# Altium integrated library Microchip dsPIC30F.IntLib: 283 symbols (part 3 of 14)
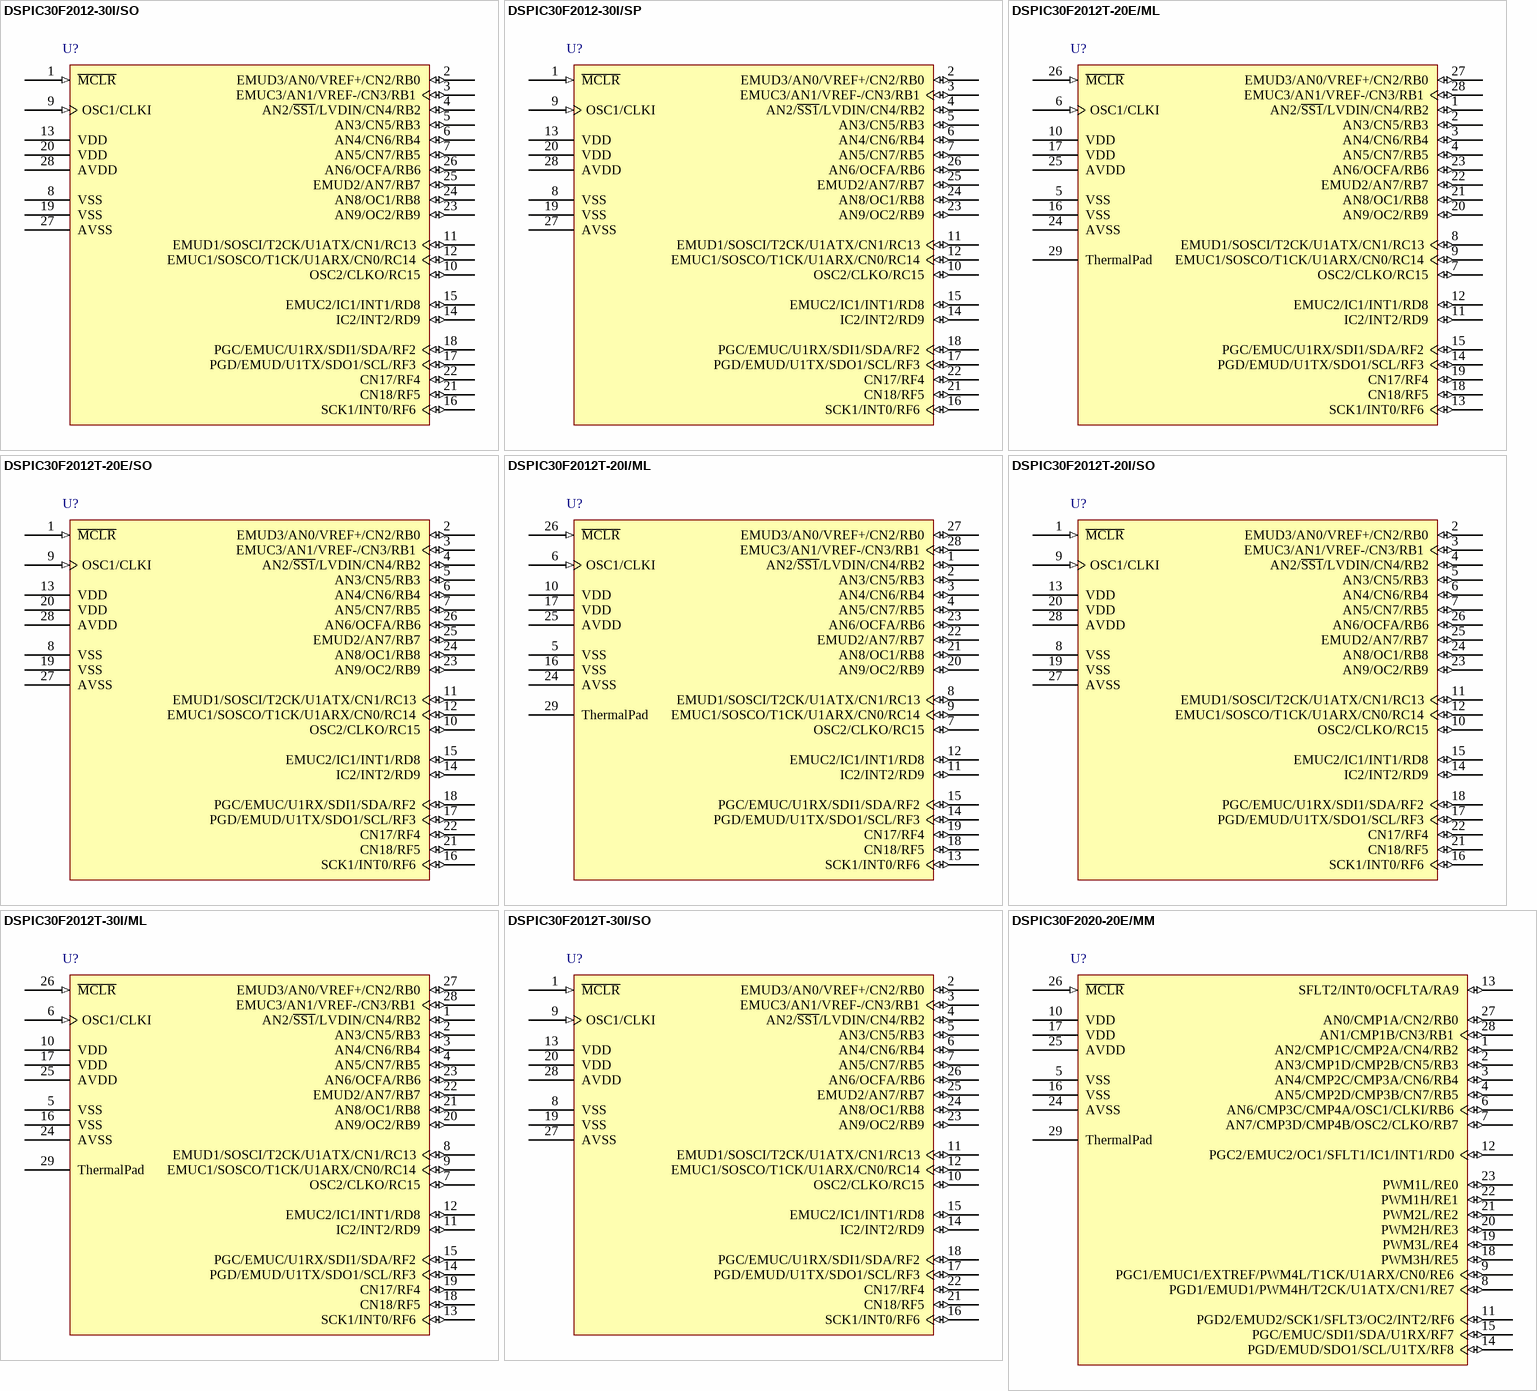
[diagram p49: symbols DSPIC30F2012-30I/SO to DSPIC30F2020-20E/MM]

## DSPIC30F2012T-20I/ML
designator U?
High-Performance 16-bit Digital Signal Controller, 12 KB Flash, 1 KB SRAM, 28-Pin QFN, Industrial Temperature, Tape and Reel; Manufacturer: Microchip; PartNumber: DSPIC30F2012T-20I/ML; DatasheetVersion: revF, May-2008; PackageVersion: revBB, Aug-2009; PackageReference: QFN-ML28; PackageDescription: 28-Lead Plastic Quad Flat, No Lead Package (ML) - 6x6 mm Body [QFN] with 0.55 mm Contact Length; Supplier 1: Digi-Key; Supplier Part Number 1: DSPIC30F2012T-20I/ML-ND; Supplier 2: Mouser; Supplier Part Number 2: 579-DS302012T20IML; Mounting Technology: Surface Mount; Code_JEDEC: MO-220; ComponentLink1Description: Manufacturer URL; ComponentLink1URL: http://www.microchip.com/; ComponentLink2Description: Datasheet; ComponentLink2URL: http://ww1.microchip.com/downloads/en/DeviceDoc/70139F.pdf; ComponentLink3Description: Package Specification; ComponentLink3URL: http://www.microchip.com/stellent/groups/techpub_sg/documents/packagingspec/en012702.pdf
footprint QFN-ML28_N (QFN, 28-Leads, Body 6x6mm, Pitch 0.65mm, Thermal Pad 4.2x4.2mm, IPC Medium Density)
footprint QFN-ML28_L (QFN, 28-Leads, Body 6x6mm, Pitch 0.65mm, Thermal Pad 4.2x4.2mm, IPC High Density)
footprint QFN-ML28_M (QFN, 28-Leads, Body 6x6mm, Pitch 0.65mm, Thermal Pad 4.2x4.2mm, IPC Low Density)
pins: 1 AN2/~{SS1}/LVDIN/CN4/RB2 (io), 2 AN3/CN5/RB3 (io), 3 AN4/CN6/RB4 (io), 4 AN5/CN7/RB5 (io), 5 VSS (power), 6 OSC1/CLKI (in), 7 OSC2/CLKO/RC15 (io), 8 EMUD1/SOSCI/T2CK/U1ATX/CN1/RC13 (io), 9 EMUC1/SOSCO/T1CK/U1ARX/CN0/RC14 (io), 10 VDD (power), 11 IC2/INT2/RD9 (io), 12 EMUC2/IC1/INT1/RD8 (io), 13 SCK1/INT0/RF6 (io), 14 PGD/EMUD/U1TX/SDO1/SCL/RF3 (io), 15 PGC/EMUC/U1RX/SDI1/SDA/RF2 (io), 16 VSS (power), 17 VDD (power), 18 CN18/RF5 (io), 19 CN17/RF4 (io), 20 AN9/OC2/RB9 (io), 21 AN8/OC1/RB8 (io), 22 EMUD2/AN7/RB7 (io), 23 AN6/OCFA/RB6 (io), 24 AVSS (power), 25 AVDD (power), 26 ~{MCLR} (in), 27 EMUD3/AN0/VREF+/CN2/RB0 (io), 28 EMUC3/AN1/VREF-/CN3/RB1 (io), 29 ThermalPad

## DSPIC30F2012T-20I/SO
designator U?
High-Performance 16-bit Digital Signal Controller, 12 KB Flash, 1 KB SRAM, 28-Pin SOIC, Industrial Temperature, Tape and Reel; Manufacturer: Microchip; PartNumber: DSPIC30F2012T-20I/SO; DatasheetVersion: revF, May-2008; PackageVersion: revBB, Aug-2009; PackageReference: SOIC-SO28; PackageDescription: 28-Lead Plastic Small Outline (SO) - Wide 7.50mm Body [SOIC]; Supplier 1: Digi-Key; Supplier Part Number 1: DSPIC30F2012T-20I/SO-ND; Supplier 2: Mouser; Supplier Part Number 2: N/A; Mounting Technology: Surface Mount; Code_JEDEC: MS-013; ComponentLink1Description: Manufacturer URL; ComponentLink1URL: http://www.microchip.com/; ComponentLink2Description: Datasheet; ComponentLink2URL: http://ww1.microchip.com/downloads/en/DeviceDoc/70139F.pdf; ComponentLink3Description: Package Specification; ComponentLink3URL: http://www.microchip.com/stellent/groups/techpub_sg/documents/packagingspec/en012702.pdf
footprint SOIC-SO28_N (SOIC, 28-Leads, Body 17.9x7.5mm, Pitch 1.27mm, IPC Medium Density)
footprint SOIC-SO28_L (SOIC, 28-Leads, Body 17.9x7.5mm, Pitch 1.27mm, IPC High Density)
footprint SOIC-SO28_M (SOIC, 28-Leads, Body 17.9x7.5mm, Pitch 1.27mm, IPC Low Density)
pins: 1 ~{MCLR} (in), 2 EMUD3/AN0/VREF+/CN2/RB0 (io), 3 EMUC3/AN1/VREF-/CN3/RB1 (io), 4 AN2/~{SS1}/LVDIN/CN4/RB2 (io), 5 AN3/CN5/RB3 (io), 6 AN4/CN6/RB4 (io), 7 AN5/CN7/RB5 (io), 8 VSS (power), 9 OSC1/CLKI (in), 10 OSC2/CLKO/RC15 (io), 11 EMUD1/SOSCI/T2CK/U1ATX/CN1/RC13 (io), 12 EMUC1/SOSCO/T1CK/U1ARX/CN0/RC14 (io), 13 VDD (power), 14 IC2/INT2/RD9 (io), 15 EMUC2/IC1/INT1/RD8 (io), 16 SCK1/INT0/RF6 (io), 17 PGD/EMUD/U1TX/SDO1/SCL/RF3 (io), 18 PGC/EMUC/U1RX/SDI1/SDA/RF2 (io), 19 VSS (power), 20 VDD (power), 21 CN18/RF5 (io), 22 CN17/RF4 (io), 23 AN9/OC2/RB9 (io), 24 AN8/OC1/RB8 (io), 25 EMUD2/AN7/RB7 (io), 26 AN6/OCFA/RB6 (io), 27 AVSS (power), 28 AVDD (power)

## DSPIC30F2012T-30I/ML
designator U?
High-Performance 16-bit Digital Signal Controller, 12 KB Flash, 1 KB SRAM, 28-Pin QFN, Industrial Temperature, Tape and Reel; Manufacturer: Microchip; PartNumber: DSPIC30F2012T-30I/ML; DatasheetVersion: revF, May-2008; PackageVersion: revBB, Aug-2009; PackageReference: QFN-ML28; PackageDescription: 28-Lead Plastic Quad Flat, No Lead Package (ML) - 6x6 mm Body [QFN] with 0.55 mm Contact Length; Supplier 1: Digi-Key; Supplier Part Number 1: DSPIC30F2012T-30I/ML-ND; Supplier 2: Newark; Supplier Part Number 2: 71J3680; Supplier 3: Mouser; Supplier Part Number 3: 579-DS302012T30IML; Mounting Technology: Surface Mount; Code_JEDEC: MO-220; ComponentLink1Description: Manufacturer URL; ComponentLink1URL: http://www.microchip.com/; ComponentLink2Description: Datasheet; ComponentLink2URL: http://ww1.microchip.com/downloads/en/DeviceDoc/70139F.pdf; ComponentLink3Description: Package Specification; ComponentLink3URL: http://www.microchip.com/stellent/groups/techpub_sg/documents/packagingspec/en012702.pdf
footprint QFN-ML28_N (QFN, 28-Leads, Body 6x6mm, Pitch 0.65mm, Thermal Pad 4.2x4.2mm, IPC Medium Density)
footprint QFN-ML28_L (QFN, 28-Leads, Body 6x6mm, Pitch 0.65mm, Thermal Pad 4.2x4.2mm, IPC High Density)
footprint QFN-ML28_M (QFN, 28-Leads, Body 6x6mm, Pitch 0.65mm, Thermal Pad 4.2x4.2mm, IPC Low Density)
pins: 1 AN2/~{SS1}/LVDIN/CN4/RB2 (io), 2 AN3/CN5/RB3 (io), 3 AN4/CN6/RB4 (io), 4 AN5/CN7/RB5 (io), 5 VSS (power), 6 OSC1/CLKI (in), 7 OSC2/CLKO/RC15 (io), 8 EMUD1/SOSCI/T2CK/U1ATX/CN1/RC13 (io), 9 EMUC1/SOSCO/T1CK/U1ARX/CN0/RC14 (io), 10 VDD (power), 11 IC2/INT2/RD9 (io), 12 EMUC2/IC1/INT1/RD8 (io), 13 SCK1/INT0/RF6 (io), 14 PGD/EMUD/U1TX/SDO1/SCL/RF3 (io), 15 PGC/EMUC/U1RX/SDI1/SDA/RF2 (io), 16 VSS (power), 17 VDD (power), 18 CN18/RF5 (io), 19 CN17/RF4 (io), 20 AN9/OC2/RB9 (io), 21 AN8/OC1/RB8 (io), 22 EMUD2/AN7/RB7 (io), 23 AN6/OCFA/RB6 (io), 24 AVSS (power), 25 AVDD (power), 26 ~{MCLR} (in), 27 EMUD3/AN0/VREF+/CN2/RB0 (io), 28 EMUC3/AN1/VREF-/CN3/RB1 (io), 29 ThermalPad

## DSPIC30F2012T-30I/SO
designator U?
High-Performance 16-bit Digital Signal Controller, 12 KB Flash, 1 KB SRAM, 28-Pin SOIC, Industrial Temperature, Tape and Reel; Manufacturer: Microchip; PartNumber: DSPIC30F2012T-30I/SO; DatasheetVersion: revF, May-2008; PackageVersion: revBB, Aug-2009; PackageReference: SOIC-SO28; PackageDescription: 28-Lead Plastic Small Outline (SO) - Wide 7.50mm Body [SOIC]; Supplier 1: Digi-Key; Supplier Part Number 1: DSPIC30F2012T-30I/SO-ND; Supplier 2: Mouser; Supplier Part Number 2: 579-DS302012T30ISO; Mounting Technology: Surface Mount; Code_JEDEC: MS-013; ComponentLink1Description: Manufacturer URL; ComponentLink1URL: http://www.microchip.com/; ComponentLink2Description: Datasheet; ComponentLink2URL: http://ww1.microchip.com/downloads/en/DeviceDoc/70139F.pdf; ComponentLink3Description: Package Specification; ComponentLink3URL: http://www.microchip.com/stellent/groups/techpub_sg/documents/packagingspec/en012702.pdf
footprint SOIC-SO28_N (SOIC, 28-Leads, Body 17.9x7.5mm, Pitch 1.27mm, IPC Medium Density)
footprint SOIC-SO28_L (SOIC, 28-Leads, Body 17.9x7.5mm, Pitch 1.27mm, IPC High Density)
footprint SOIC-SO28_M (SOIC, 28-Leads, Body 17.9x7.5mm, Pitch 1.27mm, IPC Low Density)
pins: 1 ~{MCLR} (in), 2 EMUD3/AN0/VREF+/CN2/RB0 (io), 3 EMUC3/AN1/VREF-/CN3/RB1 (io), 4 AN2/~{SS1}/LVDIN/CN4/RB2 (io), 5 AN3/CN5/RB3 (io), 6 AN4/CN6/RB4 (io), 7 AN5/CN7/RB5 (io), 8 VSS (power), 9 OSC1/CLKI (in), 10 OSC2/CLKO/RC15 (io), 11 EMUD1/SOSCI/T2CK/U1ATX/CN1/RC13 (io), 12 EMUC1/SOSCO/T1CK/U1ARX/CN0/RC14 (io), 13 VDD (power), 14 IC2/INT2/RD9 (io), 15 EMUC2/IC1/INT1/RD8 (io), 16 SCK1/INT0/RF6 (io), 17 PGD/EMUD/U1TX/SDO1/SCL/RF3 (io), 18 PGC/EMUC/U1RX/SDI1/SDA/RF2 (io), 19 VSS (power), 20 VDD (power), 21 CN18/RF5 (io), 22 CN17/RF4 (io), 23 AN9/OC2/RB9 (io), 24 AN8/OC1/RB8 (io), 25 EMUD2/AN7/RB7 (io), 26 AN6/OCFA/RB6 (io), 27 AVSS (power), 28 AVDD (power)

## DSPIC30F2020-20E/MM
designator U?
High-Performance 16-bit Digital Signal Controller with Switch Mode Power Supply, 12 KB Flash, 512 Byte SRAM, 28-Pin QFN, Extended High Temperature; Manufacturer: Microchip; PartNumber: DSPIC30F2020-20E/MM; DatasheetVersion: revC, Nov-2006; PackageVersion: revBB, Aug-2009; PackageReference: QFNS-MM28; PackageDescription: 28-Lead Plastic Quad Flat, No Lead Package (MM) - 6x6x0.9 mm Body [QFN-S] with 0.40 mm Contact Length; Supplier 1: Digi-Key; Supplier Part Number 1: DSPIC30F2020-20E/MM-ND; Supplier 2: Mouser; Supplier Part Number 2: 579-DSPIC30202020EMM; Mounting Technology: Surface Mount; ComponentLink1Description: Manufacturer URL; ComponentLink1URL: http://www.microchip.com/; ComponentLink2Description: Datasheet; ComponentLink2URL: http://ww1.microchip.com/downloads/en/DeviceDoc/70178C.pdf; ComponentLink3Description: Package Specification; ComponentLink3URL: http://www.microchip.com/stellent/groups/techpub_sg/documents/packagingspec/en012702.pdf
footprint QFNS-MM28_N (QFN, 28-Leads, Body 6x6mm, Pitch 0.65mm, Thermal Pad 4.7x4.7mm, IPC Medium Density)
footprint QFNS-MM28_L (QFN, 28-Leads, Body 6x6mm, Pitch 0.65mm, Thermal Pad 4.7x4.7mm, IPC High Density)
footprint QFNS-MM28_M (QFN, 28-Leads, Body 6x6mm, Pitch 0.65mm, Thermal Pad 4.7x4.7mm, IPC Low Density)
pins: 1 AN2/CMP1C/CMP2A/CN4/RB2 (io), 2 AN3/CMP1D/CMP2B/CN5/RB3 (io), 3 AN4/CMP2C/CMP3A/CN6/RB4 (io), 4 AN5/CMP2D/CMP3B/CN7/RB5 (io), 5 VSS (power), 6 AN6/CMP3C/CMP4A/OSC1/CLKI/RB6 (io), 7 AN7/CMP3D/CMP4B/OSC2/CLKO/RB7 (io), 8 PGD1/EMUD1/PWM4H/T2CK/U1ATX/CN1/RE7 (io), 9 PGC1/EMUC1/EXTREF/PWM4L/T1CK/U1ARX/CN0/RE6 (io), 10 VDD (power), 11 PGD2/EMUD2/SCK1/SFLT3/OC2/INT2/RF6 (io), 12 PGC2/EMUC2/OC1/SFLT1/IC1/INT1/RD0 (io), 13 SFLT2/INT0/OCFLTA/RA9 (io), 14 PGD/EMUD/SDO1/SCL/U1TX/RF8 (io), 15 PGC/EMUC/SDI1/SDA/U1RX/RF7 (io), 16 VSS (power), 17 VDD (power), 18 PWM3H/RE5 (io), 19 PWM3L/RE4 (io), 20 PWM2H/RE3 (io), 21 PWM2L/RE2 (io), 22 PWM1H/RE1 (io), 23 PWM1L/RE0 (io), 24 AVSS (power), 25 AVDD (power), 26 ~{MCLR} (in), 27 AN0/CMP1A/CN2/RB0 (io), 28 AN1/CMP1B/CN3/RB1 (io), 29 ThermalPad

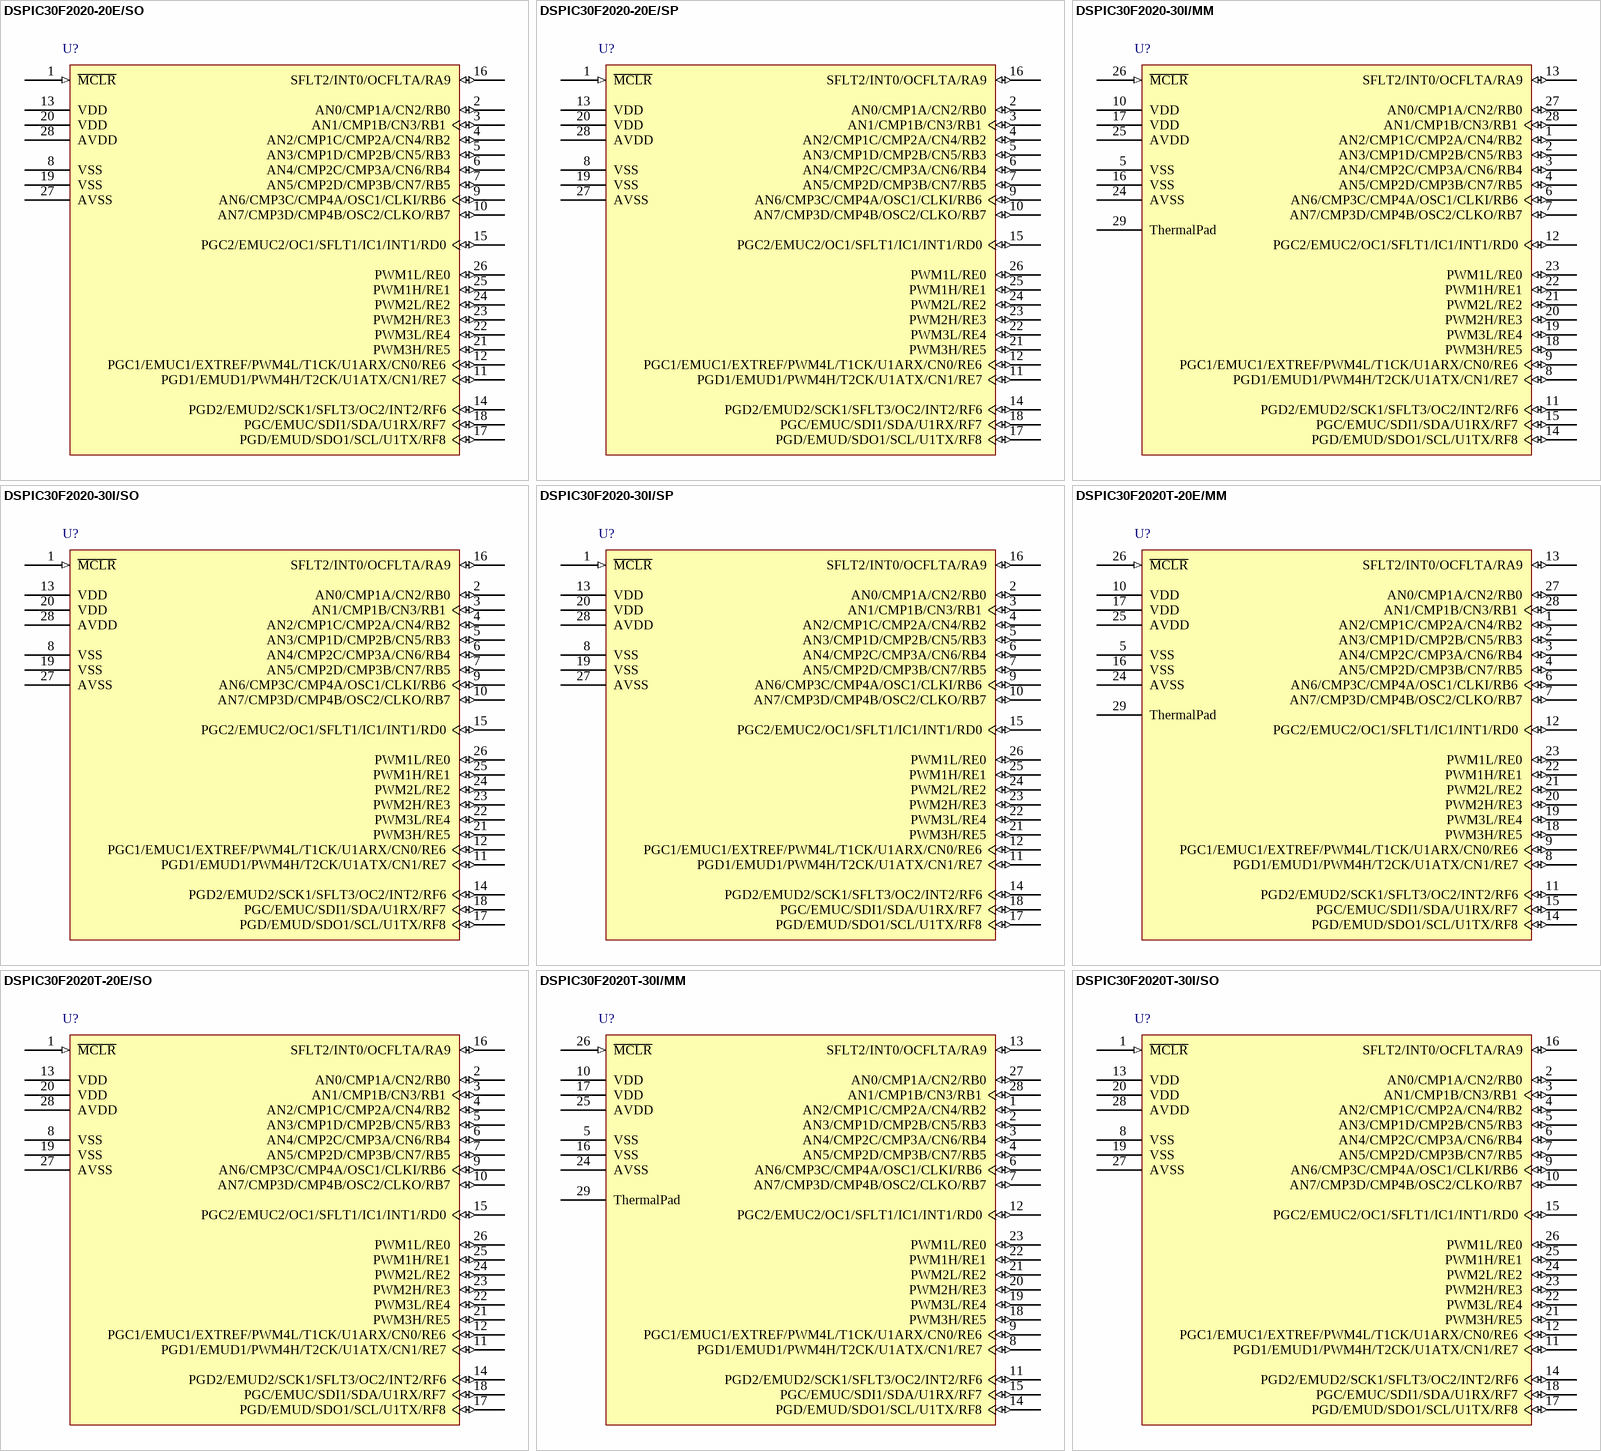
[diagram p6: symbols DSPIC30F2020-20E/SO to DSPIC30F2020T-30I/SO]

## DSPIC30F2020-20E/SO
designator U?
High-Performance 16-bit Digital Signal Controller with Switch Mode Power Supply, 12 KB Flash, 512 Byte SRAM, 28-Pin SOIC, Extended High Temperature; Manufacturer: Microchip; PartNumber: DSPIC30F2020-20E/SO; DatasheetVersion: revC, Nov-2006; PackageVersion: revBB, Aug-2009; PackageReference: SOIC-SO28; PackageDescription: 28-Lead Plastic Small Outline (SO) - Wide 7.50mm Body [SOIC]; Supplier 1: Digi-Key; Supplier Part Number 1: DSPIC30F2020-20E/SO-ND; Supplier 2: Newark; Supplier Part Number 2: 88K3879; Supplier 3: Mouser; Supplier Part Number 3: 579-DSPIC30202020ESO; Mounting Technology: Surface Mount; Code_JEDEC: MS-013; ComponentLink1Description: Manufacturer URL; ComponentLink1URL: http://www.microchip.com/; ComponentLink2Description: Datasheet; ComponentLink2URL: http://ww1.microchip.com/downloads/en/DeviceDoc/70178C.pdf; ComponentLink3Description: Package Specification; ComponentLink3URL: http://www.microchip.com/stellent/groups/techpub_sg/documents/packagingspec/en012702.pdf
footprint SOIC-SO28_N (SOIC, 28-Leads, Body 17.9x7.5mm, Pitch 1.27mm, IPC Medium Density)
footprint SOIC-SO28_L (SOIC, 28-Leads, Body 17.9x7.5mm, Pitch 1.27mm, IPC High Density)
footprint SOIC-SO28_M (SOIC, 28-Leads, Body 17.9x7.5mm, Pitch 1.27mm, IPC Low Density)
pins: 1 ~{MCLR} (in), 2 AN0/CMP1A/CN2/RB0 (io), 3 AN1/CMP1B/CN3/RB1 (io), 4 AN2/CMP1C/CMP2A/CN4/RB2 (io), 5 AN3/CMP1D/CMP2B/CN5/RB3 (io), 6 AN4/CMP2C/CMP3A/CN6/RB4 (io), 7 AN5/CMP2D/CMP3B/CN7/RB5 (io), 8 VSS (power), 9 AN6/CMP3C/CMP4A/OSC1/CLKI/RB6 (io), 10 AN7/CMP3D/CMP4B/OSC2/CLKO/RB7 (io), 11 PGD1/EMUD1/PWM4H/T2CK/U1ATX/CN1/RE7 (io), 12 PGC1/EMUC1/EXTREF/PWM4L/T1CK/U1ARX/CN0/RE6 (io), 13 VDD (power), 14 PGD2/EMUD2/SCK1/SFLT3/OC2/INT2/RF6 (io), 15 PGC2/EMUC2/OC1/SFLT1/IC1/INT1/RD0 (io), 16 SFLT2/INT0/OCFLTA/RA9 (io), 17 PGD/EMUD/SDO1/SCL/U1TX/RF8 (io), 18 PGC/EMUC/SDI1/SDA/U1RX/RF7 (io), 19 VSS (power), 20 VDD (power), 21 PWM3H/RE5 (io), 22 PWM3L/RE4 (io), 23 PWM2H/RE3 (io), 24 PWM2L/RE2 (io), 25 PWM1H/RE1 (io), 26 PWM1L/RE0 (io), 27 AVSS (power), 28 AVDD (power)

## DSPIC30F2020-20E/SP
designator U?
High-Performance 16-bit Digital Signal Controller with Switch Mode Power Supply, 12 KB Flash, 512 Byte SRAM, 28-Pin SPDIP, Extended High Temperature; Manufacturer: Microchip; PartNumber: DSPIC30F2020-20E/SP; DatasheetVersion: revC, Nov-2006; PackageVersion: revBB, Aug-2009; PackageReference: SPDIP300-SP28; PackageDescription: 28-Lead Skinny Plastic Dual In-Line (SP) - 300 mil Body [SPDIP]; Supplier 1: Digi-Key; Supplier Part Number 1: DSPIC30F2020-20E/SP-ND; Supplier 2: Newark; Supplier Part Number 2: 88K3880; Supplier 3: Mouser; Supplier Part Number 3: 579-DSPIC30202020ESP; Mounting Technology: Through Hole; ComponentLink1Description: Manufacturer URL; ComponentLink1URL: http://www.microchip.com/; ComponentLink2Description: Datasheet; ComponentLink2URL: http://ww1.microchip.com/downloads/en/DeviceDoc/70178C.pdf; ComponentLink3Description: Package Specification; ComponentLink3URL: http://www.microchip.com/stellent/groups/techpub_sg/documents/packagingspec/en012702.pdf
footprint SPDIP300-SP28 (DIP, 28-Leads, Row Spacing 7.62mm, Pitch 2.54mm, Body 34.9x6.8mm)
pins: 1 ~{MCLR} (in), 2 AN0/CMP1A/CN2/RB0 (io), 3 AN1/CMP1B/CN3/RB1 (io), 4 AN2/CMP1C/CMP2A/CN4/RB2 (io), 5 AN3/CMP1D/CMP2B/CN5/RB3 (io), 6 AN4/CMP2C/CMP3A/CN6/RB4 (io), 7 AN5/CMP2D/CMP3B/CN7/RB5 (io), 8 VSS (power), 9 AN6/CMP3C/CMP4A/OSC1/CLKI/RB6 (io), 10 AN7/CMP3D/CMP4B/OSC2/CLKO/RB7 (io), 11 PGD1/EMUD1/PWM4H/T2CK/U1ATX/CN1/RE7 (io), 12 PGC1/EMUC1/EXTREF/PWM4L/T1CK/U1ARX/CN0/RE6 (io), 13 VDD (power), 14 PGD2/EMUD2/SCK1/SFLT3/OC2/INT2/RF6 (io), 15 PGC2/EMUC2/OC1/SFLT1/IC1/INT1/RD0 (io), 16 SFLT2/INT0/OCFLTA/RA9 (io), 17 PGD/EMUD/SDO1/SCL/U1TX/RF8 (io), 18 PGC/EMUC/SDI1/SDA/U1RX/RF7 (io), 19 VSS (power), 20 VDD (power), 21 PWM3H/RE5 (io), 22 PWM3L/RE4 (io), 23 PWM2H/RE3 (io), 24 PWM2L/RE2 (io), 25 PWM1H/RE1 (io), 26 PWM1L/RE0 (io), 27 AVSS (power), 28 AVDD (power)

## DSPIC30F2020-30I/MM
designator U?
High-Performance 16-bit Digital Signal Controller with Switch Mode Power Supply, 12 KB Flash, 512 Byte SRAM, 28-Pin QFN, Industrial Temperature; Manufacturer: Microchip; PartNumber: DSPIC30F2020-30I/MM; DatasheetVersion: revC, Nov-2006; PackageVersion: revBB, Aug-2009; PackageReference: QFNS-MM28; PackageDescription: 28-Lead Plastic Quad Flat, No Lead Package (MM) - 6x6x0.9 mm Body [QFN-S] with 0.40 mm Contact Length; Supplier 1: Digi-Key; Supplier Part Number 1: DSPIC30F2020-30I/MM-ND; Supplier 2: Farnell; Supplier Part Number 2: 1847749; Supplier 3: Newark; Supplier Part Number 3: 88K3881; Supplier 4: Mouser; Supplier Part Number 4: 579-DSPIC30202030IMM; Mounting Technology: Surface Mount; ComponentLink1Description: Manufacturer URL; ComponentLink1URL: http://www.microchip.com/; ComponentLink2Description: Datasheet; ComponentLink2URL: http://ww1.microchip.com/downloads/en/DeviceDoc/70178C.pdf; ComponentLink3Description: Package Specification; ComponentLink3URL: http://www.microchip.com/stellent/groups/techpub_sg/documents/packagingspec/en012702.pdf
footprint QFNS-MM28_N (QFN, 28-Leads, Body 6x6mm, Pitch 0.65mm, Thermal Pad 4.7x4.7mm, IPC Medium Density)
footprint QFNS-MM28_L (QFN, 28-Leads, Body 6x6mm, Pitch 0.65mm, Thermal Pad 4.7x4.7mm, IPC High Density)
footprint QFNS-MM28_M (QFN, 28-Leads, Body 6x6mm, Pitch 0.65mm, Thermal Pad 4.7x4.7mm, IPC Low Density)
pins: 1 AN2/CMP1C/CMP2A/CN4/RB2 (io), 2 AN3/CMP1D/CMP2B/CN5/RB3 (io), 3 AN4/CMP2C/CMP3A/CN6/RB4 (io), 4 AN5/CMP2D/CMP3B/CN7/RB5 (io), 5 VSS (power), 6 AN6/CMP3C/CMP4A/OSC1/CLKI/RB6 (io), 7 AN7/CMP3D/CMP4B/OSC2/CLKO/RB7 (io), 8 PGD1/EMUD1/PWM4H/T2CK/U1ATX/CN1/RE7 (io), 9 PGC1/EMUC1/EXTREF/PWM4L/T1CK/U1ARX/CN0/RE6 (io), 10 VDD (power), 11 PGD2/EMUD2/SCK1/SFLT3/OC2/INT2/RF6 (io), 12 PGC2/EMUC2/OC1/SFLT1/IC1/INT1/RD0 (io), 13 SFLT2/INT0/OCFLTA/RA9 (io), 14 PGD/EMUD/SDO1/SCL/U1TX/RF8 (io), 15 PGC/EMUC/SDI1/SDA/U1RX/RF7 (io), 16 VSS (power), 17 VDD (power), 18 PWM3H/RE5 (io), 19 PWM3L/RE4 (io), 20 PWM2H/RE3 (io), 21 PWM2L/RE2 (io), 22 PWM1H/RE1 (io), 23 PWM1L/RE0 (io), 24 AVSS (power), 25 AVDD (power), 26 ~{MCLR} (in), 27 AN0/CMP1A/CN2/RB0 (io), 28 AN1/CMP1B/CN3/RB1 (io), 29 ThermalPad

## DSPIC30F2020-30I/SO
designator U?
High-Performance 16-bit Digital Signal Controller with Switch Mode Power Supply, 12 KB Flash, 512 Byte SRAM, 28-Pin SOIC, Industrial Temperature; Manufacturer: Microchip; PartNumber: DSPIC30F2020-30I/SO; DatasheetVersion: revC, Nov-2006; PackageVersion: revBB, Aug-2009; PackageReference: SOIC-SO28; PackageDescription: 28-Lead Plastic Small Outline (SO) - Wide 7.50mm Body [SOIC]; Supplier 1: Digi-Key; Supplier Part Number 1: DSPIC30F2020-30I/SO-ND; Supplier 2: Farnell; Supplier Part Number 2: 1332026; Supplier 3: Newark; Supplier Part Number 3: 88K3882; Supplier 4: Mouser; Supplier Part Number 4: 579-DSPIC30202030ISO; Mounting Technology: Surface Mount; Code_JEDEC: MS-013; ComponentLink1Description: Manufacturer URL; ComponentLink1URL: http://www.microchip.com/; ComponentLink2Description: Datasheet; ComponentLink2URL: http://ww1.microchip.com/downloads/en/DeviceDoc/70178C.pdf; ComponentLink3Description: Package Specification; ComponentLink3URL: http://www.microchip.com/stellent/groups/techpub_sg/documents/packagingspec/en012702.pdf
footprint SOIC-SO28_N (SOIC, 28-Leads, Body 17.9x7.5mm, Pitch 1.27mm, IPC Medium Density)
footprint SOIC-SO28_L (SOIC, 28-Leads, Body 17.9x7.5mm, Pitch 1.27mm, IPC High Density)
footprint SOIC-SO28_M (SOIC, 28-Leads, Body 17.9x7.5mm, Pitch 1.27mm, IPC Low Density)
pins: 1 ~{MCLR} (in), 2 AN0/CMP1A/CN2/RB0 (io), 3 AN1/CMP1B/CN3/RB1 (io), 4 AN2/CMP1C/CMP2A/CN4/RB2 (io), 5 AN3/CMP1D/CMP2B/CN5/RB3 (io), 6 AN4/CMP2C/CMP3A/CN6/RB4 (io), 7 AN5/CMP2D/CMP3B/CN7/RB5 (io), 8 VSS (power), 9 AN6/CMP3C/CMP4A/OSC1/CLKI/RB6 (io), 10 AN7/CMP3D/CMP4B/OSC2/CLKO/RB7 (io), 11 PGD1/EMUD1/PWM4H/T2CK/U1ATX/CN1/RE7 (io), 12 PGC1/EMUC1/EXTREF/PWM4L/T1CK/U1ARX/CN0/RE6 (io), 13 VDD (power), 14 PGD2/EMUD2/SCK1/SFLT3/OC2/INT2/RF6 (io), 15 PGC2/EMUC2/OC1/SFLT1/IC1/INT1/RD0 (io), 16 SFLT2/INT0/OCFLTA/RA9 (io), 17 PGD/EMUD/SDO1/SCL/U1TX/RF8 (io), 18 PGC/EMUC/SDI1/SDA/U1RX/RF7 (io), 19 VSS (power), 20 VDD (power), 21 PWM3H/RE5 (io), 22 PWM3L/RE4 (io), 23 PWM2H/RE3 (io), 24 PWM2L/RE2 (io), 25 PWM1H/RE1 (io), 26 PWM1L/RE0 (io), 27 AVSS (power), 28 AVDD (power)

## DSPIC30F2020-30I/SP
designator U?
High-Performance 16-bit Digital Signal Controller with Switch Mode Power Supply, 12 KB Flash, 512 Byte SRAM, 28-Pin SPDIP, Industrial Temperature; Manufacturer: Microchip; PartNumber: DSPIC30F2020-30I/SP; DatasheetVersion: revC, Nov-2006; PackageVersion: revBB, Aug-2009; PackageReference: SPDIP300-SP28; PackageDescription: 28-Lead Skinny Plastic Dual In-Line (SP) - 300 mil Body [SPDIP]; Supplier 1: Digi-Key; Supplier Part Number 1: DSPIC30F2020-30I/SP-ND; Supplier 2: Farnell; Supplier Part Number 2: 1297281; Supplier 3: Newark; Supplier Part Number 3: 88K3883; Supplier 4: Mouser; Supplier Part Number 4: 579-DSPIC30202030ISP; Mounting Technology: Through Hole; ComponentLink1Description: Manufacturer URL; ComponentLink1URL: http://www.microchip.com/; ComponentLink2Description: Datasheet; ComponentLink2URL: http://ww1.microchip.com/downloads/en/DeviceDoc/70178C.pdf; ComponentLink3Description: Package Specification; ComponentLink3URL: http://www.microchip.com/stellent/groups/techpub_sg/documents/packagingspec/en012702.pdf
footprint SPDIP300-SP28 (DIP, 28-Leads, Row Spacing 7.62mm, Pitch 2.54mm, Body 34.9x6.8mm)
pins: 1 ~{MCLR} (in), 2 AN0/CMP1A/CN2/RB0 (io), 3 AN1/CMP1B/CN3/RB1 (io), 4 AN2/CMP1C/CMP2A/CN4/RB2 (io), 5 AN3/CMP1D/CMP2B/CN5/RB3 (io), 6 AN4/CMP2C/CMP3A/CN6/RB4 (io), 7 AN5/CMP2D/CMP3B/CN7/RB5 (io), 8 VSS (power), 9 AN6/CMP3C/CMP4A/OSC1/CLKI/RB6 (io), 10 AN7/CMP3D/CMP4B/OSC2/CLKO/RB7 (io), 11 PGD1/EMUD1/PWM4H/T2CK/U1ATX/CN1/RE7 (io), 12 PGC1/EMUC1/EXTREF/PWM4L/T1CK/U1ARX/CN0/RE6 (io), 13 VDD (power), 14 PGD2/EMUD2/SCK1/SFLT3/OC2/INT2/RF6 (io), 15 PGC2/EMUC2/OC1/SFLT1/IC1/INT1/RD0 (io), 16 SFLT2/INT0/OCFLTA/RA9 (io), 17 PGD/EMUD/SDO1/SCL/U1TX/RF8 (io), 18 PGC/EMUC/SDI1/SDA/U1RX/RF7 (io), 19 VSS (power), 20 VDD (power), 21 PWM3H/RE5 (io), 22 PWM3L/RE4 (io), 23 PWM2H/RE3 (io), 24 PWM2L/RE2 (io), 25 PWM1H/RE1 (io), 26 PWM1L/RE0 (io), 27 AVSS (power), 28 AVDD (power)

## DSPIC30F2020T-20E/MM
designator U?
High-Performance 16-bit Digital Signal Controller with Switch Mode Power Supply, 12 KB Flash, 512 Byte SRAM, 28-Pin QFN, Extended High Temperature, Tape and Reel; Manufacturer: Microchip; PartNumber: DSPIC30F2020T-20E/MM; DatasheetVersion: revC, Nov-2006; PackageVersion: revBB, Aug-2009; PackageReference: QFNS-MM28; PackageDescription: 28-Lead Plastic Quad Flat, No Lead Package (MM) - 6x6x0.9 mm Body [QFN-S] with 0.40 mm Contact Length; Mounting Technology: Surface Mount; ComponentLink1Description: Manufacturer URL; ComponentLink1URL: http://www.microchip.com/; ComponentLink2Description: Datasheet; ComponentLink2URL: http://ww1.microchip.com/downloads/en/DeviceDoc/70178C.pdf; ComponentLink3Description: Package Specification; ComponentLink3URL: http://www.microchip.com/stellent/groups/techpub_sg/documents/packagingspec/en012702.pdf
footprint QFNS-MM28_N (QFN, 28-Leads, Body 6x6mm, Pitch 0.65mm, Thermal Pad 4.7x4.7mm, IPC Medium Density)
footprint QFNS-MM28_L (QFN, 28-Leads, Body 6x6mm, Pitch 0.65mm, Thermal Pad 4.7x4.7mm, IPC High Density)
footprint QFNS-MM28_M (QFN, 28-Leads, Body 6x6mm, Pitch 0.65mm, Thermal Pad 4.7x4.7mm, IPC Low Density)
pins: 1 AN2/CMP1C/CMP2A/CN4/RB2 (io), 2 AN3/CMP1D/CMP2B/CN5/RB3 (io), 3 AN4/CMP2C/CMP3A/CN6/RB4 (io), 4 AN5/CMP2D/CMP3B/CN7/RB5 (io), 5 VSS (power), 6 AN6/CMP3C/CMP4A/OSC1/CLKI/RB6 (io), 7 AN7/CMP3D/CMP4B/OSC2/CLKO/RB7 (io), 8 PGD1/EMUD1/PWM4H/T2CK/U1ATX/CN1/RE7 (io), 9 PGC1/EMUC1/EXTREF/PWM4L/T1CK/U1ARX/CN0/RE6 (io), 10 VDD (power), 11 PGD2/EMUD2/SCK1/SFLT3/OC2/INT2/RF6 (io), 12 PGC2/EMUC2/OC1/SFLT1/IC1/INT1/RD0 (io), 13 SFLT2/INT0/OCFLTA/RA9 (io), 14 PGD/EMUD/SDO1/SCL/U1TX/RF8 (io), 15 PGC/EMUC/SDI1/SDA/U1RX/RF7 (io), 16 VSS (power), 17 VDD (power), 18 PWM3H/RE5 (io), 19 PWM3L/RE4 (io), 20 PWM2H/RE3 (io), 21 PWM2L/RE2 (io), 22 PWM1H/RE1 (io), 23 PWM1L/RE0 (io), 24 AVSS (power), 25 AVDD (power), 26 ~{MCLR} (in), 27 AN0/CMP1A/CN2/RB0 (io), 28 AN1/CMP1B/CN3/RB1 (io), 29 ThermalPad

## DSPIC30F2020T-20E/SO
designator U?
High-Performance 16-bit Digital Signal Controller with Switch Mode Power Supply, 12 KB Flash, 512 Byte SRAM, 28-Pin SOIC, Extended High Temperature, Tape and Reel; Manufacturer: Microchip; PartNumber: DSPIC30F2020T-20E/SO; DatasheetVersion: revC, Nov-2006; PackageVersion: revBB, Aug-2009; PackageReference: SOIC-SO28; PackageDescription: 28-Lead Plastic Small Outline (SO) - Wide 7.50mm Body [SOIC]; Mounting Technology: Surface Mount; Code_JEDEC: MS-013; ComponentLink1Description: Manufacturer URL; ComponentLink1URL: http://www.microchip.com/; ComponentLink2Description: Datasheet; ComponentLink2URL: http://ww1.microchip.com/downloads/en/DeviceDoc/70178C.pdf; ComponentLink3Description: Package Specification; ComponentLink3URL: http://www.microchip.com/stellent/groups/techpub_sg/documents/packagingspec/en012702.pdf
footprint SOIC-SO28_N (SOIC, 28-Leads, Body 17.9x7.5mm, Pitch 1.27mm, IPC Medium Density)
footprint SOIC-SO28_L (SOIC, 28-Leads, Body 17.9x7.5mm, Pitch 1.27mm, IPC High Density)
footprint SOIC-SO28_M (SOIC, 28-Leads, Body 17.9x7.5mm, Pitch 1.27mm, IPC Low Density)
pins: 1 ~{MCLR} (in), 2 AN0/CMP1A/CN2/RB0 (io), 3 AN1/CMP1B/CN3/RB1 (io), 4 AN2/CMP1C/CMP2A/CN4/RB2 (io), 5 AN3/CMP1D/CMP2B/CN5/RB3 (io), 6 AN4/CMP2C/CMP3A/CN6/RB4 (io), 7 AN5/CMP2D/CMP3B/CN7/RB5 (io), 8 VSS (power), 9 AN6/CMP3C/CMP4A/OSC1/CLKI/RB6 (io), 10 AN7/CMP3D/CMP4B/OSC2/CLKO/RB7 (io), 11 PGD1/EMUD1/PWM4H/T2CK/U1ATX/CN1/RE7 (io), 12 PGC1/EMUC1/EXTREF/PWM4L/T1CK/U1ARX/CN0/RE6 (io), 13 VDD (power), 14 PGD2/EMUD2/SCK1/SFLT3/OC2/INT2/RF6 (io), 15 PGC2/EMUC2/OC1/SFLT1/IC1/INT1/RD0 (io), 16 SFLT2/INT0/OCFLTA/RA9 (io), 17 PGD/EMUD/SDO1/SCL/U1TX/RF8 (io), 18 PGC/EMUC/SDI1/SDA/U1RX/RF7 (io), 19 VSS (power), 20 VDD (power), 21 PWM3H/RE5 (io), 22 PWM3L/RE4 (io), 23 PWM2H/RE3 (io), 24 PWM2L/RE2 (io), 25 PWM1H/RE1 (io), 26 PWM1L/RE0 (io), 27 AVSS (power), 28 AVDD (power)

## DSPIC30F2020T-30I/MM
designator U?
High-Performance 16-bit Digital Signal Controller with Switch Mode Power Supply, 12 KB Flash, 512 Byte SRAM, 28-Pin QFN, Industrial Temperature, Tape and Reel; Manufacturer: Microchip; PartNumber: DSPIC30F2020T-30I/MM; DatasheetVersion: revC, Nov-2006; PackageVersion: revBB, Aug-2009; PackageReference: QFNS-MM28; PackageDescription: 28-Lead Plastic Quad Flat, No Lead Package (MM) - 6x6x0.9 mm Body [QFN-S] with 0.40 mm Contact Length; Supplier 1: Digi-Key; Supplier Part Number 1: DSPIC30F2020T-30I/MMTR-ND; Supplier 2: Mouser; Supplier Part Number 2: 579-DSPIC302020T30IM; Mounting Technology: Surface Mount; ComponentLink1Description: Manufacturer URL; ComponentLink1URL: http://www.microchip.com/; ComponentLink2Description: Datasheet; ComponentLink2URL: http://ww1.microchip.com/downloads/en/DeviceDoc/70178C.pdf; ComponentLink3Description: Package Specification; ComponentLink3URL: http://www.microchip.com/stellent/groups/techpub_sg/documents/packagingspec/en012702.pdf
footprint QFNS-MM28_N (QFN, 28-Leads, Body 6x6mm, Pitch 0.65mm, Thermal Pad 4.7x4.7mm, IPC Medium Density)
footprint QFNS-MM28_L (QFN, 28-Leads, Body 6x6mm, Pitch 0.65mm, Thermal Pad 4.7x4.7mm, IPC High Density)
footprint QFNS-MM28_M (QFN, 28-Leads, Body 6x6mm, Pitch 0.65mm, Thermal Pad 4.7x4.7mm, IPC Low Density)
pins: 1 AN2/CMP1C/CMP2A/CN4/RB2 (io), 2 AN3/CMP1D/CMP2B/CN5/RB3 (io), 3 AN4/CMP2C/CMP3A/CN6/RB4 (io), 4 AN5/CMP2D/CMP3B/CN7/RB5 (io), 5 VSS (power), 6 AN6/CMP3C/CMP4A/OSC1/CLKI/RB6 (io), 7 AN7/CMP3D/CMP4B/OSC2/CLKO/RB7 (io), 8 PGD1/EMUD1/PWM4H/T2CK/U1ATX/CN1/RE7 (io), 9 PGC1/EMUC1/EXTREF/PWM4L/T1CK/U1ARX/CN0/RE6 (io), 10 VDD (power), 11 PGD2/EMUD2/SCK1/SFLT3/OC2/INT2/RF6 (io), 12 PGC2/EMUC2/OC1/SFLT1/IC1/INT1/RD0 (io), 13 SFLT2/INT0/OCFLTA/RA9 (io), 14 PGD/EMUD/SDO1/SCL/U1TX/RF8 (io), 15 PGC/EMUC/SDI1/SDA/U1RX/RF7 (io), 16 VSS (power), 17 VDD (power), 18 PWM3H/RE5 (io), 19 PWM3L/RE4 (io), 20 PWM2H/RE3 (io), 21 PWM2L/RE2 (io), 22 PWM1H/RE1 (io), 23 PWM1L/RE0 (io), 24 AVSS (power), 25 AVDD (power), 26 ~{MCLR} (in), 27 AN0/CMP1A/CN2/RB0 (io), 28 AN1/CMP1B/CN3/RB1 (io), 29 ThermalPad

## DSPIC30F2020T-30I/SO
designator U?
High-Performance 16-bit Digital Signal Controller with Switch Mode Power Supply, 12 KB Flash, 512 Byte SRAM, 28-Pin SOIC, Industrial Temperature, Tape and Reel; Manufacturer: Microchip; PartNumber: DSPIC30F2020T-30I/SO; DatasheetVersion: revC, Nov-2006; PackageVersion: revBB, Aug-2009; PackageReference: SOIC-SO28; PackageDescription: 28-Lead Plastic Small Outline (SO) - Wide 7.50mm Body [SOIC]; Supplier 1: Digi-Key; Supplier Part Number 1: DSPIC30F2020T-30I/SOTR-ND; Supplier 2: Digi-Key; Supplier Part Number 2: DSPIC30F2020T-30I/SOCT-ND; Supplier 3: Digi-Key; Supplier Part Number 3: DSPIC30F2020T-30I/SODKR-ND; Supplier 4: Mouser; Supplier Part Number 4: 579-DSPIC302020T30IS; Mounting Technology: Surface Mount; Code_JEDEC: MS-013; ComponentLink1Description: Manufacturer URL; ComponentLink1URL: http://www.microchip.com/; ComponentLink2Description: Datasheet; ComponentLink2URL: http://ww1.microchip.com/downloads/en/DeviceDoc/70178C.pdf; ComponentLink3Description: Package Specification; ComponentLink3URL: http://www.microchip.com/stellent/groups/techpub_sg/documents/packagingspec/en012702.pdf
footprint SOIC-SO28_N (SOIC, 28-Leads, Body 17.9x7.5mm, Pitch 1.27mm, IPC Medium Density)
footprint SOIC-SO28_L (SOIC, 28-Leads, Body 17.9x7.5mm, Pitch 1.27mm, IPC High Density)
footprint SOIC-SO28_M (SOIC, 28-Leads, Body 17.9x7.5mm, Pitch 1.27mm, IPC Low Density)
pins: 1 ~{MCLR} (in), 2 AN0/CMP1A/CN2/RB0 (io), 3 AN1/CMP1B/CN3/RB1 (io), 4 AN2/CMP1C/CMP2A/CN4/RB2 (io), 5 AN3/CMP1D/CMP2B/CN5/RB3 (io), 6 AN4/CMP2C/CMP3A/CN6/RB4 (io), 7 AN5/CMP2D/CMP3B/CN7/RB5 (io), 8 VSS (power), 9 AN6/CMP3C/CMP4A/OSC1/CLKI/RB6 (io), 10 AN7/CMP3D/CMP4B/OSC2/CLKO/RB7 (io), 11 PGD1/EMUD1/PWM4H/T2CK/U1ATX/CN1/RE7 (io), 12 PGC1/EMUC1/EXTREF/PWM4L/T1CK/U1ARX/CN0/RE6 (io), 13 VDD (power), 14 PGD2/EMUD2/SCK1/SFLT3/OC2/INT2/RF6 (io), 15 PGC2/EMUC2/OC1/SFLT1/IC1/INT1/RD0 (io), 16 SFLT2/INT0/OCFLTA/RA9 (io), 17 PGD/EMUD/SDO1/SCL/U1TX/RF8 (io), 18 PGC/EMUC/SDI1/SDA/U1RX/RF7 (io), 19 VSS (power), 20 VDD (power), 21 PWM3H/RE5 (io), 22 PWM3L/RE4 (io), 23 PWM2H/RE3 (io), 24 PWM2L/RE2 (io), 25 PWM1H/RE1 (io), 26 PWM1L/RE0 (io), 27 AVSS (power), 28 AVDD (power)

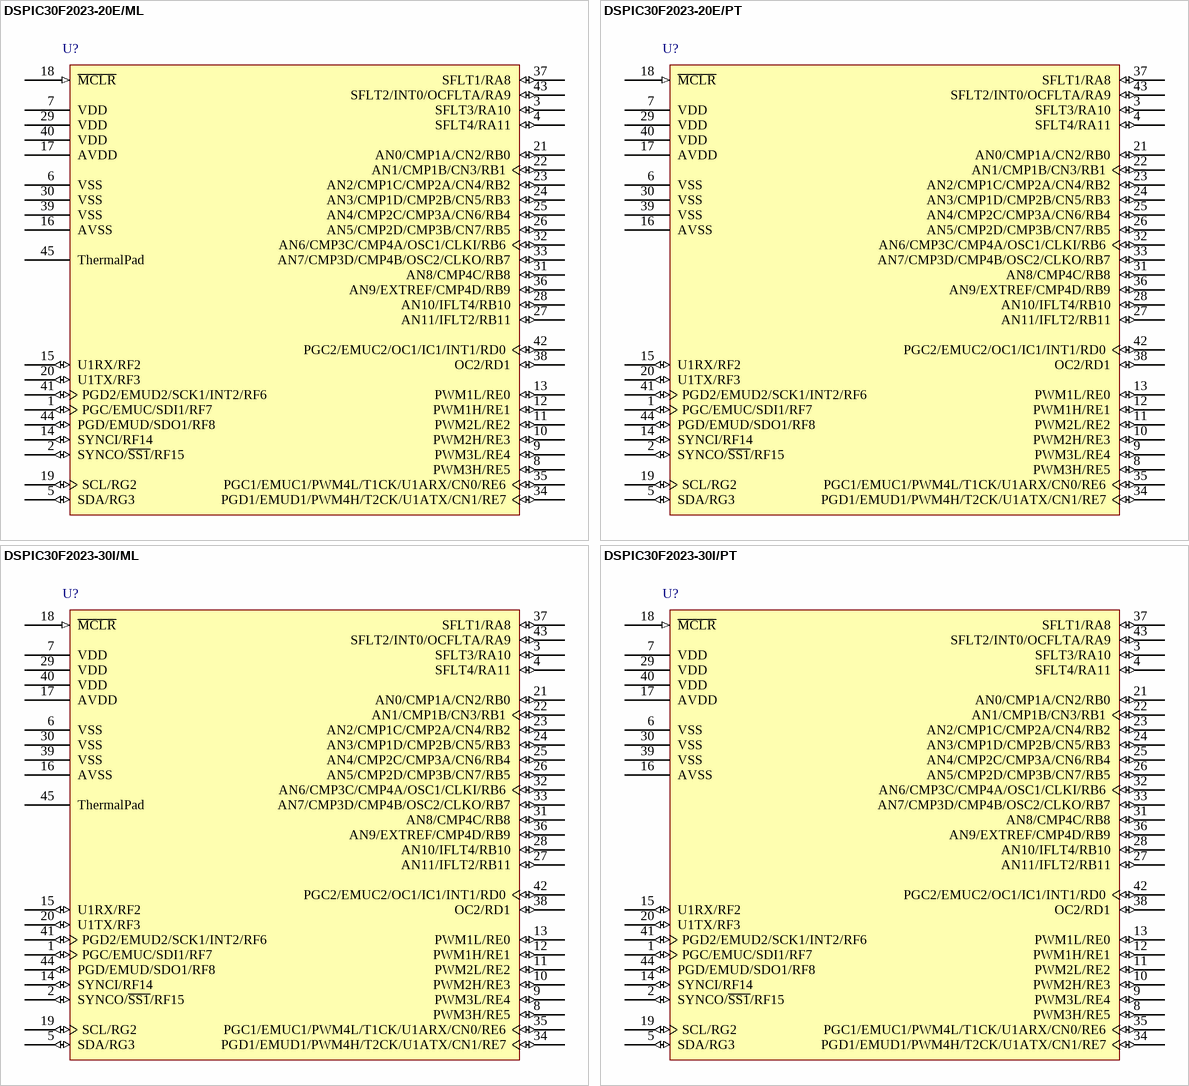
[diagram p7: symbols DSPIC30F2023-20E/ML to DSPIC30F2023-30I/PT]

## DSPIC30F2023-20E/ML
designator U?
High-Performance 16-bit Digital Signal Controller with Switch Mode Power Supply, 12 KB Flash, 512 Byte SRAM, 44-Pin QFN, Extended High Temperature; Manufacturer: Microchip; PartNumber: DSPIC30F2023-20E/ML; DatasheetVersion: revC, Nov-2006; PackageVersion: revBB, Aug-2009; PackageReference: QFN-ML44; PackageDescription: 44-Lead Plastic Quad Flat, No Lead Package (ML) - 8x8 mm Body [QFN]; Supplier 1: Digi-Key; Supplier Part Number 1: DSPIC30F2023-20E/ML-ND; Supplier 2: Mouser; Supplier Part Number 2: 579-DSPIC30202320EML; Mounting Technology: Surface Mount; Code_JEDEC: MO-220; Code_IPC: QFN65P800X800-44V2; ComponentLink1Description: Manufacturer URL; ComponentLink1URL: http://www.microchip.com/; ComponentLink2Description: Datasheet; ComponentLink2URL: http://ww1.microchip.com/downloads/en/DeviceDoc/70178C.pdf; ComponentLink3Description: Package Specification; ComponentLink3URL: http://www.microchip.com/stellent/groups/techpub_sg/documents/packagingspec/en012702.pdf
footprint QFN-ML44_N (QFN, 44-Leads, Body 8x8mm, Pitch 0.65mm, Thermal Pad 6.8x6.8mm, IPC Medium Density)
footprint QFN-ML44_L (QFN, 44-Leads, Body 8x8mm, Pitch 0.65mm, Thermal Pad 6.8x6.8mm, IPC High Density)
footprint QFN-ML44_M (QFN, 44-Leads, Body 8x8mm, Pitch 0.65mm, Thermal Pad 6.8x6.8mm, IPC Low Density)
pins: 1 PGC/EMUC/SDI1/RF7 (io), 2 SYNCO/~{SS1}/RF15 (io), 3 SFLT3/RA10 (io), 4 SFLT4/RA11 (io), 5 SDA/RG3 (io), 6 VSS (power), 7 VDD (power), 8 PWM3H/RE5 (io), 9 PWM3L/RE4 (io), 10 PWM2H/RE3 (io), 11 PWM2L/RE2 (io), 12 PWM1H/RE1 (io), 13 PWM1L/RE0 (io), 14 SYNCI/RF14 (io), 15 U1RX/RF2 (io), 16 AVSS (power), 17 AVDD (power), 18 ~{MCLR} (in), 19 SCL/RG2 (io), 20 U1TX/RF3 (io), 21 AN0/CMP1A/CN2/RB0 (io), 22 AN1/CMP1B/CN3/RB1 (io), 23 AN2/CMP1C/CMP2A/CN4/RB2 (io), 24 AN3/CMP1D/CMP2B/CN5/RB3 (io), 25 AN4/CMP2C/CMP3A/CN6/RB4 (io), 26 AN5/CMP2D/CMP3B/CN7/RB5 (io), 27 AN11/IFLT2/RB11 (io), 28 AN10/IFLT4/RB10 (io), 29 VDD (power), 30 VSS (power), 31 AN8/CMP4C/RB8 (io), 32 AN6/CMP3C/CMP4A/OSC1/CLKI/RB6 (io), 33 AN7/CMP3D/CMP4B/OSC2/CLKO/RB7 (io), 34 PGD1/EMUD1/PWM4H/T2CK/U1ATX/CN1/RE7 (io), 35 PGC1/EMUC1/PWM4L/T1CK/U1ARX/CN0/RE6 (io), 36 AN9/EXTREF/CMP4D/RB9 (io), 37 SFLT1/RA8 (io), 38 OC2/RD1 (io), 39 VSS (power), 40 VDD (power), 41 PGD2/EMUD2/SCK1/INT2/RF6 (io), 42 PGC2/EMUC2/OC1/IC1/INT1/RD0 (io), 43 SFLT2/INT0/OCFLTA/RA9 (io), 44 PGD/EMUD/SDO1/RF8 (io), 45 ThermalPad

## DSPIC30F2023-20E/PT
designator U?
High-Performance 16-bit Digital Signal Controller with Switch Mode Power Supply, 12 KB Flash, 512 Byte SRAM, 44-Pin TQFP, Extended High Temperature; Manufacturer: Microchip; PartNumber: DSPIC30F2023-20E/PT; DatasheetVersion: revC, Nov-2006; PackageVersion: revBB, Aug-2009; PackageReference: TQFP-PT44; PackageDescription: 44-Lead Plastic Thin Quad Flatpack (PT) - 10x10x1mm Body, 2.00mm [TQFP]; Supplier 1: Digi-Key; Supplier Part Number 1: DSPIC30F2023-20E/PT-ND; Supplier 2: Mouser; Supplier Part Number 2: 579-PIC30F202320EPT; Mounting Technology: Surface Mount; Code_JEDEC: MS-026; ComponentLink1Description: Manufacturer URL; ComponentLink1URL: http://www.microchip.com/; ComponentLink2Description: Datasheet; ComponentLink2URL: http://ww1.microchip.com/downloads/en/DeviceDoc/70178C.pdf; ComponentLink3Description: Package Specification; ComponentLink3URL: http://www.microchip.com/stellent/groups/techpub_sg/documents/packagingspec/en012702.pdf
footprint TQFP-PT44_N (Thin QFP, 44-Leads, Body 10x10mm, Pitch 0.8mm, IPC Medium Density)
footprint TQFP-PT44_L (Thin QFP, 44-Leads, Body 10x10mm, Pitch 0.8mm, IPC High Density)
footprint TQFP-PT44_M (Thin QFP, 44-Leads, Body 10x10mm, Pitch 0.8mm, IPC Low Density)
pins: 1 PGC/EMUC/SDI1/RF7 (io), 2 SYNCO/~{SS1}/RF15 (io), 3 SFLT3/RA10 (io), 4 SFLT4/RA11 (io), 5 SDA/RG3 (io), 6 VSS (power), 7 VDD (power), 8 PWM3H/RE5 (io), 9 PWM3L/RE4 (io), 10 PWM2H/RE3 (io), 11 PWM2L/RE2 (io), 12 PWM1H/RE1 (io), 13 PWM1L/RE0 (io), 14 SYNCI/RF14 (io), 15 U1RX/RF2 (io), 16 AVSS (power), 17 AVDD (power), 18 ~{MCLR} (in), 19 SCL/RG2 (io), 20 U1TX/RF3 (io), 21 AN0/CMP1A/CN2/RB0 (io), 22 AN1/CMP1B/CN3/RB1 (io), 23 AN2/CMP1C/CMP2A/CN4/RB2 (io), 24 AN3/CMP1D/CMP2B/CN5/RB3 (io), 25 AN4/CMP2C/CMP3A/CN6/RB4 (io), 26 AN5/CMP2D/CMP3B/CN7/RB5 (io), 27 AN11/IFLT2/RB11 (io), 28 AN10/IFLT4/RB10 (io), 29 VDD (power), 30 VSS (power), 31 AN8/CMP4C/RB8 (io), 32 AN6/CMP3C/CMP4A/OSC1/CLKI/RB6 (io), 33 AN7/CMP3D/CMP4B/OSC2/CLKO/RB7 (io), 34 PGD1/EMUD1/PWM4H/T2CK/U1ATX/CN1/RE7 (io), 35 PGC1/EMUC1/PWM4L/T1CK/U1ARX/CN0/RE6 (io), 36 AN9/EXTREF/CMP4D/RB9 (io), 37 SFLT1/RA8 (io), 38 OC2/RD1 (io), 39 VSS (power), 40 VDD (power), 41 PGD2/EMUD2/SCK1/INT2/RF6 (io), 42 PGC2/EMUC2/OC1/IC1/INT1/RD0 (io), 43 SFLT2/INT0/OCFLTA/RA9 (io), 44 PGD/EMUD/SDO1/RF8 (io)

## DSPIC30F2023-30I/ML
designator U?
High-Performance 16-bit Digital Signal Controller with Switch Mode Power Supply, 12 KB Flash, 512 Byte SRAM, 44-Pin QFN, Industrial Temperature; Manufacturer: Microchip; PartNumber: DSPIC30F2023-30I/ML; DatasheetVersion: revC, Nov-2006; PackageVersion: revBB, Aug-2009; PackageReference: QFN-ML44; PackageDescription: 44-Lead Plastic Quad Flat, No Lead Package (ML) - 8x8 mm Body [QFN]; Supplier 1: Digi-Key; Supplier Part Number 1: DSPIC30F2023-30I/ML-ND; Supplier 2: Farnell; Supplier Part Number 2: 1297282; Supplier 3: Mouser; Supplier Part Number 3: 579-DSPIC30202330IML; Mounting Technology: Surface Mount; Code_JEDEC: MO-220; Code_IPC: QFN65P800X800-44V2; ComponentLink1Description: Manufacturer URL; ComponentLink1URL: http://www.microchip.com/; ComponentLink2Description: Datasheet; ComponentLink2URL: http://ww1.microchip.com/downloads/en/DeviceDoc/70178C.pdf; ComponentLink3Description: Package Specification; ComponentLink3URL: http://www.microchip.com/stellent/groups/techpub_sg/documents/packagingspec/en012702.pdf
footprint QFN-ML44_N (QFN, 44-Leads, Body 8x8mm, Pitch 0.65mm, Thermal Pad 6.8x6.8mm, IPC Medium Density)
footprint QFN-ML44_L (QFN, 44-Leads, Body 8x8mm, Pitch 0.65mm, Thermal Pad 6.8x6.8mm, IPC High Density)
footprint QFN-ML44_M (QFN, 44-Leads, Body 8x8mm, Pitch 0.65mm, Thermal Pad 6.8x6.8mm, IPC Low Density)
pins: 1 PGC/EMUC/SDI1/RF7 (io), 2 SYNCO/~{SS1}/RF15 (io), 3 SFLT3/RA10 (io), 4 SFLT4/RA11 (io), 5 SDA/RG3 (io), 6 VSS (power), 7 VDD (power), 8 PWM3H/RE5 (io), 9 PWM3L/RE4 (io), 10 PWM2H/RE3 (io), 11 PWM2L/RE2 (io), 12 PWM1H/RE1 (io), 13 PWM1L/RE0 (io), 14 SYNCI/RF14 (io), 15 U1RX/RF2 (io), 16 AVSS (power), 17 AVDD (power), 18 ~{MCLR} (in), 19 SCL/RG2 (io), 20 U1TX/RF3 (io), 21 AN0/CMP1A/CN2/RB0 (io), 22 AN1/CMP1B/CN3/RB1 (io), 23 AN2/CMP1C/CMP2A/CN4/RB2 (io), 24 AN3/CMP1D/CMP2B/CN5/RB3 (io), 25 AN4/CMP2C/CMP3A/CN6/RB4 (io), 26 AN5/CMP2D/CMP3B/CN7/RB5 (io), 27 AN11/IFLT2/RB11 (io), 28 AN10/IFLT4/RB10 (io), 29 VDD (power), 30 VSS (power), 31 AN8/CMP4C/RB8 (io), 32 AN6/CMP3C/CMP4A/OSC1/CLKI/RB6 (io), 33 AN7/CMP3D/CMP4B/OSC2/CLKO/RB7 (io), 34 PGD1/EMUD1/PWM4H/T2CK/U1ATX/CN1/RE7 (io), 35 PGC1/EMUC1/PWM4L/T1CK/U1ARX/CN0/RE6 (io), 36 AN9/EXTREF/CMP4D/RB9 (io), 37 SFLT1/RA8 (io), 38 OC2/RD1 (io), 39 VSS (power), 40 VDD (power), 41 PGD2/EMUD2/SCK1/INT2/RF6 (io), 42 PGC2/EMUC2/OC1/IC1/INT1/RD0 (io), 43 SFLT2/INT0/OCFLTA/RA9 (io), 44 PGD/EMUD/SDO1/RF8 (io), 45 ThermalPad

## DSPIC30F2023-30I/PT
designator U?
High-Performance 16-bit Digital Signal Controller with Switch Mode Power Supply, 12 KB Flash, 512 Byte SRAM, 44-Pin TQFP, Industrial Temperature; Manufacturer: Microchip; PartNumber: DSPIC30F2023-30I/PT; DatasheetVersion: revC, Nov-2006; PackageVersion: revBB, Aug-2009; PackageReference: TQFP-PT44; PackageDescription: 44-Lead Plastic Thin Quad Flatpack (PT) - 10x10x1mm Body, 2.00mm [TQFP]; Supplier 1: Digi-Key; Supplier Part Number 1: DSPIC30F2023-30I/PT-ND; Supplier 2: Farnell; Supplier Part Number 2: 1332027MPKG; Supplier 3: Farnell; Supplier Part Number 3: 1332027; Supplier 4: Newark; Supplier Part Number 4: 88K3889; Supplier 5: Mouser; Supplier Part Number 5: 579-DSPIC30202330IPT; Mounting Technology: Surface Mount; Code_JEDEC: MS-026; ComponentLink1Description: Manufacturer URL; ComponentLink1URL: http://www.microchip.com/; ComponentLink2Description: Datasheet; ComponentLink2URL: http://ww1.microchip.com/downloads/en/DeviceDoc/70178C.pdf; ComponentLink3Description: Package Specification; ComponentLink3URL: http://www.microchip.com/stellent/groups/techpub_sg/documents/packagingspec/en012702.pdf
footprint TQFP-PT44_N (Thin QFP, 44-Leads, Body 10x10mm, Pitch 0.8mm, IPC Medium Density)
footprint TQFP-PT44_L (Thin QFP, 44-Leads, Body 10x10mm, Pitch 0.8mm, IPC High Density)
footprint TQFP-PT44_M (Thin QFP, 44-Leads, Body 10x10mm, Pitch 0.8mm, IPC Low Density)
pins: 1 PGC/EMUC/SDI1/RF7 (io), 2 SYNCO/~{SS1}/RF15 (io), 3 SFLT3/RA10 (io), 4 SFLT4/RA11 (io), 5 SDA/RG3 (io), 6 VSS (power), 7 VDD (power), 8 PWM3H/RE5 (io), 9 PWM3L/RE4 (io), 10 PWM2H/RE3 (io), 11 PWM2L/RE2 (io), 12 PWM1H/RE1 (io), 13 PWM1L/RE0 (io), 14 SYNCI/RF14 (io), 15 U1RX/RF2 (io), 16 AVSS (power), 17 AVDD (power), 18 ~{MCLR} (in), 19 SCL/RG2 (io), 20 U1TX/RF3 (io), 21 AN0/CMP1A/CN2/RB0 (io), 22 AN1/CMP1B/CN3/RB1 (io), 23 AN2/CMP1C/CMP2A/CN4/RB2 (io), 24 AN3/CMP1D/CMP2B/CN5/RB3 (io), 25 AN4/CMP2C/CMP3A/CN6/RB4 (io), 26 AN5/CMP2D/CMP3B/CN7/RB5 (io), 27 AN11/IFLT2/RB11 (io), 28 AN10/IFLT4/RB10 (io), 29 VDD (power), 30 VSS (power), 31 AN8/CMP4C/RB8 (io), 32 AN6/CMP3C/CMP4A/OSC1/CLKI/RB6 (io), 33 AN7/CMP3D/CMP4B/OSC2/CLKO/RB7 (io), 34 PGD1/EMUD1/PWM4H/T2CK/U1ATX/CN1/RE7 (io), 35 PGC1/EMUC1/PWM4L/T1CK/U1ARX/CN0/RE6 (io), 36 AN9/EXTREF/CMP4D/RB9 (io), 37 SFLT1/RA8 (io), 38 OC2/RD1 (io), 39 VSS (power), 40 VDD (power), 41 PGD2/EMUD2/SCK1/INT2/RF6 (io), 42 PGC2/EMUC2/OC1/IC1/INT1/RD0 (io), 43 SFLT2/INT0/OCFLTA/RA9 (io), 44 PGD/EMUD/SDO1/RF8 (io)

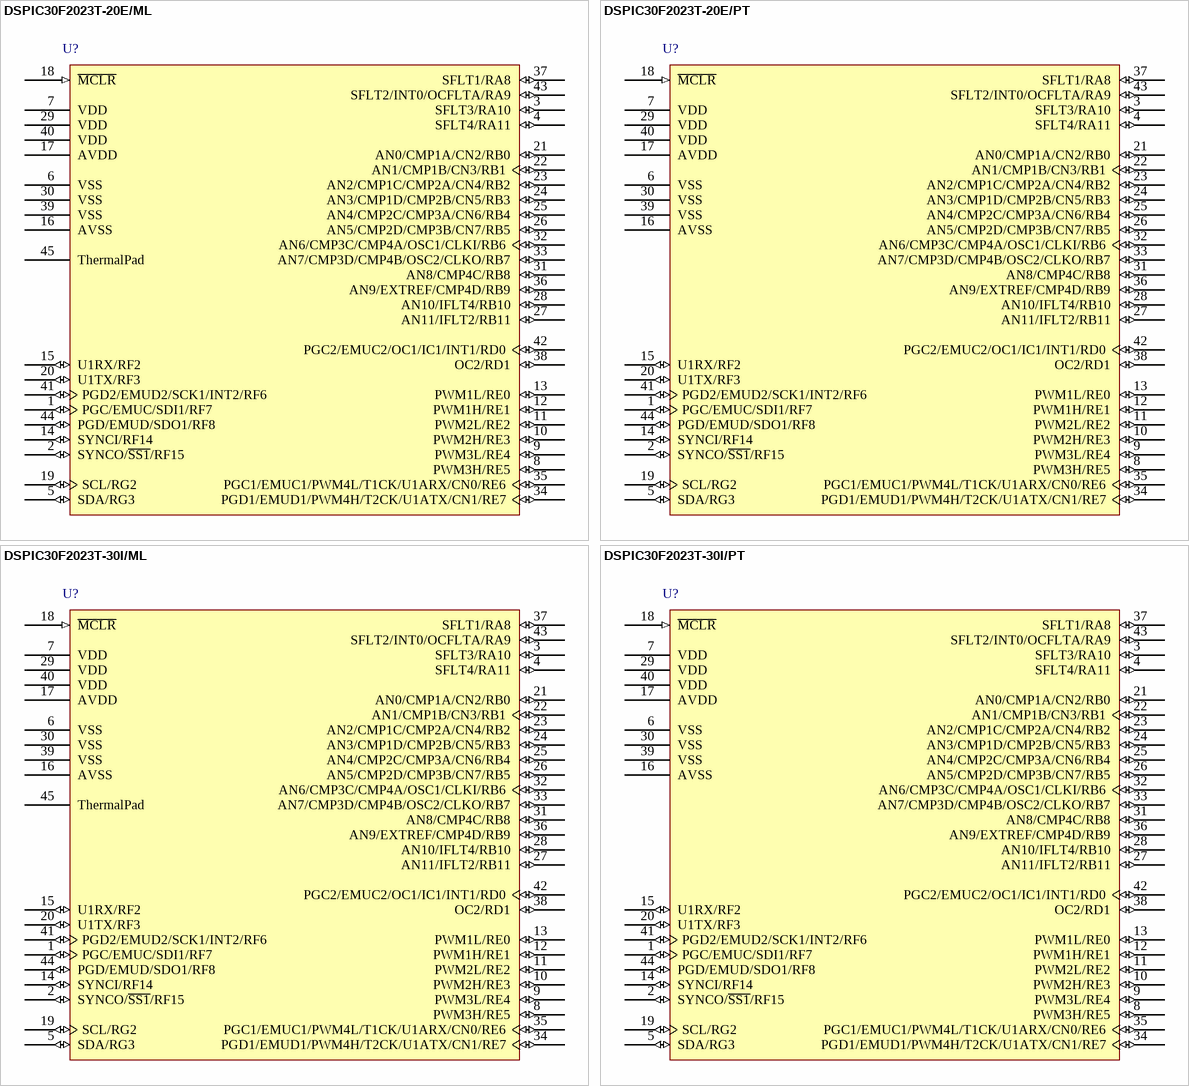
[diagram p8: symbols DSPIC30F2023T-20E/ML to DSPIC30F2023T-30I/PT]

## DSPIC30F2023T-20E/ML
designator U?
High-Performance 16-bit Digital Signal Controller with Switch Mode Power Supply, 12 KB Flash, 512 Byte SRAM, 44-Pin QFN, Extended High Temperature, Tape and Reel; Manufacturer: Microchip; PartNumber: DSPIC30F2023T-20E/ML; DatasheetVersion: revC, Nov-2006; PackageVersion: revBB, Aug-2009; PackageReference: QFN-ML44; PackageDescription: 44-Lead Plastic Quad Flat, No Lead Package (ML) - 8x8 mm Body [QFN]; Mounting Technology: Surface Mount; Code_JEDEC: MO-220; Code_IPC: QFN65P800X800-44V2; ComponentLink1Description: Manufacturer URL; ComponentLink1URL: http://www.microchip.com/; ComponentLink2Description: Datasheet; ComponentLink2URL: http://ww1.microchip.com/downloads/en/DeviceDoc/70178C.pdf; ComponentLink3Description: Package Specification; ComponentLink3URL: http://www.microchip.com/stellent/groups/techpub_sg/documents/packagingspec/en012702.pdf
footprint QFN-ML44_N (QFN, 44-Leads, Body 8x8mm, Pitch 0.65mm, Thermal Pad 6.8x6.8mm, IPC Medium Density)
footprint QFN-ML44_L (QFN, 44-Leads, Body 8x8mm, Pitch 0.65mm, Thermal Pad 6.8x6.8mm, IPC High Density)
footprint QFN-ML44_M (QFN, 44-Leads, Body 8x8mm, Pitch 0.65mm, Thermal Pad 6.8x6.8mm, IPC Low Density)
pins: 1 PGC/EMUC/SDI1/RF7 (io), 2 SYNCO/~{SS1}/RF15 (io), 3 SFLT3/RA10 (io), 4 SFLT4/RA11 (io), 5 SDA/RG3 (io), 6 VSS (power), 7 VDD (power), 8 PWM3H/RE5 (io), 9 PWM3L/RE4 (io), 10 PWM2H/RE3 (io), 11 PWM2L/RE2 (io), 12 PWM1H/RE1 (io), 13 PWM1L/RE0 (io), 14 SYNCI/RF14 (io), 15 U1RX/RF2 (io), 16 AVSS (power), 17 AVDD (power), 18 ~{MCLR} (in), 19 SCL/RG2 (io), 20 U1TX/RF3 (io), 21 AN0/CMP1A/CN2/RB0 (io), 22 AN1/CMP1B/CN3/RB1 (io), 23 AN2/CMP1C/CMP2A/CN4/RB2 (io), 24 AN3/CMP1D/CMP2B/CN5/RB3 (io), 25 AN4/CMP2C/CMP3A/CN6/RB4 (io), 26 AN5/CMP2D/CMP3B/CN7/RB5 (io), 27 AN11/IFLT2/RB11 (io), 28 AN10/IFLT4/RB10 (io), 29 VDD (power), 30 VSS (power), 31 AN8/CMP4C/RB8 (io), 32 AN6/CMP3C/CMP4A/OSC1/CLKI/RB6 (io), 33 AN7/CMP3D/CMP4B/OSC2/CLKO/RB7 (io), 34 PGD1/EMUD1/PWM4H/T2CK/U1ATX/CN1/RE7 (io), 35 PGC1/EMUC1/PWM4L/T1CK/U1ARX/CN0/RE6 (io), 36 AN9/EXTREF/CMP4D/RB9 (io), 37 SFLT1/RA8 (io), 38 OC2/RD1 (io), 39 VSS (power), 40 VDD (power), 41 PGD2/EMUD2/SCK1/INT2/RF6 (io), 42 PGC2/EMUC2/OC1/IC1/INT1/RD0 (io), 43 SFLT2/INT0/OCFLTA/RA9 (io), 44 PGD/EMUD/SDO1/RF8 (io), 45 ThermalPad

## DSPIC30F2023T-20E/PT
designator U?
High-Performance 16-bit Digital Signal Controller with Switch Mode Power Supply, 12 KB Flash, 512 Byte SRAM, 44-Pin TQFP, Extended High Temperature, Tape and Reel; Manufacturer: Microchip; PartNumber: DSPIC30F2023T-20E/PT; DatasheetVersion: revC, Nov-2006; PackageVersion: revBB, Aug-2009; PackageReference: TQFP-PT44; PackageDescription: 44-Lead Plastic Thin Quad Flatpack (PT) - 10x10x1mm Body, 2.00mm [TQFP]; Mounting Technology: Surface Mount; Code_JEDEC: MS-026; ComponentLink1Description: Manufacturer URL; ComponentLink1URL: http://www.microchip.com/; ComponentLink2Description: Datasheet; ComponentLink2URL: http://ww1.microchip.com/downloads/en/DeviceDoc/70178C.pdf; ComponentLink3Description: Package Specification; ComponentLink3URL: http://www.microchip.com/stellent/groups/techpub_sg/documents/packagingspec/en012702.pdf
footprint TQFP-PT44_N (Thin QFP, 44-Leads, Body 10x10mm, Pitch 0.8mm, IPC Medium Density)
footprint TQFP-PT44_L (Thin QFP, 44-Leads, Body 10x10mm, Pitch 0.8mm, IPC High Density)
footprint TQFP-PT44_M (Thin QFP, 44-Leads, Body 10x10mm, Pitch 0.8mm, IPC Low Density)
pins: 1 PGC/EMUC/SDI1/RF7 (io), 2 SYNCO/~{SS1}/RF15 (io), 3 SFLT3/RA10 (io), 4 SFLT4/RA11 (io), 5 SDA/RG3 (io), 6 VSS (power), 7 VDD (power), 8 PWM3H/RE5 (io), 9 PWM3L/RE4 (io), 10 PWM2H/RE3 (io), 11 PWM2L/RE2 (io), 12 PWM1H/RE1 (io), 13 PWM1L/RE0 (io), 14 SYNCI/RF14 (io), 15 U1RX/RF2 (io), 16 AVSS (power), 17 AVDD (power), 18 ~{MCLR} (in), 19 SCL/RG2 (io), 20 U1TX/RF3 (io), 21 AN0/CMP1A/CN2/RB0 (io), 22 AN1/CMP1B/CN3/RB1 (io), 23 AN2/CMP1C/CMP2A/CN4/RB2 (io), 24 AN3/CMP1D/CMP2B/CN5/RB3 (io), 25 AN4/CMP2C/CMP3A/CN6/RB4 (io), 26 AN5/CMP2D/CMP3B/CN7/RB5 (io), 27 AN11/IFLT2/RB11 (io), 28 AN10/IFLT4/RB10 (io), 29 VDD (power), 30 VSS (power), 31 AN8/CMP4C/RB8 (io), 32 AN6/CMP3C/CMP4A/OSC1/CLKI/RB6 (io), 33 AN7/CMP3D/CMP4B/OSC2/CLKO/RB7 (io), 34 PGD1/EMUD1/PWM4H/T2CK/U1ATX/CN1/RE7 (io), 35 PGC1/EMUC1/PWM4L/T1CK/U1ARX/CN0/RE6 (io), 36 AN9/EXTREF/CMP4D/RB9 (io), 37 SFLT1/RA8 (io), 38 OC2/RD1 (io), 39 VSS (power), 40 VDD (power), 41 PGD2/EMUD2/SCK1/INT2/RF6 (io), 42 PGC2/EMUC2/OC1/IC1/INT1/RD0 (io), 43 SFLT2/INT0/OCFLTA/RA9 (io), 44 PGD/EMUD/SDO1/RF8 (io)

## DSPIC30F2023T-30I/ML
designator U?
High-Performance 16-bit Digital Signal Controller with Switch Mode Power Supply, 12 KB Flash, 512 Byte SRAM, 44-Pin QFN, Industrial Temperature, Tape and Reel; Manufacturer: Microchip; PartNumber: DSPIC30F2023T-30I/ML; DatasheetVersion: revC, Nov-2006; PackageVersion: revBB, Aug-2009; PackageReference: QFN-ML44; PackageDescription: 44-Lead Plastic Quad Flat, No Lead Package (ML) - 8x8 mm Body [QFN]; Supplier 1: Digi-Key; Supplier Part Number 1: DSPIC30F2023T-30I/MLTR-ND; Supplier 2: Mouser; Supplier Part Number 2: 579-DSPIC302023T30IM; Mounting Technology: Surface Mount; Code_JEDEC: MO-220; Code_IPC: QFN65P800X800-44V2; ComponentLink1Description: Manufacturer URL; ComponentLink1URL: http://www.microchip.com/; ComponentLink2Description: Datasheet; ComponentLink2URL: http://ww1.microchip.com/downloads/en/DeviceDoc/70178C.pdf; ComponentLink3Description: Package Specification; ComponentLink3URL: http://www.microchip.com/stellent/groups/techpub_sg/documents/packagingspec/en012702.pdf
footprint QFN-ML44_N (QFN, 44-Leads, Body 8x8mm, Pitch 0.65mm, Thermal Pad 6.8x6.8mm, IPC Medium Density)
footprint QFN-ML44_L (QFN, 44-Leads, Body 8x8mm, Pitch 0.65mm, Thermal Pad 6.8x6.8mm, IPC High Density)
footprint QFN-ML44_M (QFN, 44-Leads, Body 8x8mm, Pitch 0.65mm, Thermal Pad 6.8x6.8mm, IPC Low Density)
pins: 1 PGC/EMUC/SDI1/RF7 (io), 2 SYNCO/~{SS1}/RF15 (io), 3 SFLT3/RA10 (io), 4 SFLT4/RA11 (io), 5 SDA/RG3 (io), 6 VSS (power), 7 VDD (power), 8 PWM3H/RE5 (io), 9 PWM3L/RE4 (io), 10 PWM2H/RE3 (io), 11 PWM2L/RE2 (io), 12 PWM1H/RE1 (io), 13 PWM1L/RE0 (io), 14 SYNCI/RF14 (io), 15 U1RX/RF2 (io), 16 AVSS (power), 17 AVDD (power), 18 ~{MCLR} (in), 19 SCL/RG2 (io), 20 U1TX/RF3 (io), 21 AN0/CMP1A/CN2/RB0 (io), 22 AN1/CMP1B/CN3/RB1 (io), 23 AN2/CMP1C/CMP2A/CN4/RB2 (io), 24 AN3/CMP1D/CMP2B/CN5/RB3 (io), 25 AN4/CMP2C/CMP3A/CN6/RB4 (io), 26 AN5/CMP2D/CMP3B/CN7/RB5 (io), 27 AN11/IFLT2/RB11 (io), 28 AN10/IFLT4/RB10 (io), 29 VDD (power), 30 VSS (power), 31 AN8/CMP4C/RB8 (io), 32 AN6/CMP3C/CMP4A/OSC1/CLKI/RB6 (io), 33 AN7/CMP3D/CMP4B/OSC2/CLKO/RB7 (io), 34 PGD1/EMUD1/PWM4H/T2CK/U1ATX/CN1/RE7 (io), 35 PGC1/EMUC1/PWM4L/T1CK/U1ARX/CN0/RE6 (io), 36 AN9/EXTREF/CMP4D/RB9 (io), 37 SFLT1/RA8 (io), 38 OC2/RD1 (io), 39 VSS (power), 40 VDD (power), 41 PGD2/EMUD2/SCK1/INT2/RF6 (io), 42 PGC2/EMUC2/OC1/IC1/INT1/RD0 (io), 43 SFLT2/INT0/OCFLTA/RA9 (io), 44 PGD/EMUD/SDO1/RF8 (io), 45 ThermalPad

## DSPIC30F2023T-30I/PT
designator U?
High-Performance 16-bit Digital Signal Controller with Switch Mode Power Supply, 12 KB Flash, 512 Byte SRAM, 44-Pin TQFP, Industrial Temperature, Tape and Reel; Manufacturer: Microchip; PartNumber: DSPIC30F2023T-30I/PT; DatasheetVersion: revC, Nov-2006; PackageVersion: revBB, Aug-2009; PackageReference: TQFP-PT44; PackageDescription: 44-Lead Plastic Thin Quad Flatpack (PT) - 10x10x1mm Body, 2.00mm [TQFP]; Supplier 1: Digi-Key; Supplier Part Number 1: DSPIC30F2023T-30I/PTTR-ND; Supplier 2: Mouser; Supplier Part Number 2: 579-DSPIC302023T30IP; Mounting Technology: Surface Mount; Code_JEDEC: MS-026; ComponentLink1Description: Manufacturer URL; ComponentLink1URL: http://www.microchip.com/; ComponentLink2Description: Datasheet; ComponentLink2URL: http://ww1.microchip.com/downloads/en/DeviceDoc/70178C.pdf; ComponentLink3Description: Package Specification; ComponentLink3URL: http://www.microchip.com/stellent/groups/techpub_sg/documents/packagingspec/en012702.pdf
footprint TQFP-PT44_N (Thin QFP, 44-Leads, Body 10x10mm, Pitch 0.8mm, IPC Medium Density)
footprint TQFP-PT44_L (Thin QFP, 44-Leads, Body 10x10mm, Pitch 0.8mm, IPC High Density)
footprint TQFP-PT44_M (Thin QFP, 44-Leads, Body 10x10mm, Pitch 0.8mm, IPC Low Density)
pins: 1 PGC/EMUC/SDI1/RF7 (io), 2 SYNCO/~{SS1}/RF15 (io), 3 SFLT3/RA10 (io), 4 SFLT4/RA11 (io), 5 SDA/RG3 (io), 6 VSS (power), 7 VDD (power), 8 PWM3H/RE5 (io), 9 PWM3L/RE4 (io), 10 PWM2H/RE3 (io), 11 PWM2L/RE2 (io), 12 PWM1H/RE1 (io), 13 PWM1L/RE0 (io), 14 SYNCI/RF14 (io), 15 U1RX/RF2 (io), 16 AVSS (power), 17 AVDD (power), 18 ~{MCLR} (in), 19 SCL/RG2 (io), 20 U1TX/RF3 (io), 21 AN0/CMP1A/CN2/RB0 (io), 22 AN1/CMP1B/CN3/RB1 (io), 23 AN2/CMP1C/CMP2A/CN4/RB2 (io), 24 AN3/CMP1D/CMP2B/CN5/RB3 (io), 25 AN4/CMP2C/CMP3A/CN6/RB4 (io), 26 AN5/CMP2D/CMP3B/CN7/RB5 (io), 27 AN11/IFLT2/RB11 (io), 28 AN10/IFLT4/RB10 (io), 29 VDD (power), 30 VSS (power), 31 AN8/CMP4C/RB8 (io), 32 AN6/CMP3C/CMP4A/OSC1/CLKI/RB6 (io), 33 AN7/CMP3D/CMP4B/OSC2/CLKO/RB7 (io), 34 PGD1/EMUD1/PWM4H/T2CK/U1ATX/CN1/RE7 (io), 35 PGC1/EMUC1/PWM4L/T1CK/U1ARX/CN0/RE6 (io), 36 AN9/EXTREF/CMP4D/RB9 (io), 37 SFLT1/RA8 (io), 38 OC2/RD1 (io), 39 VSS (power), 40 VDD (power), 41 PGD2/EMUD2/SCK1/INT2/RF6 (io), 42 PGC2/EMUC2/OC1/IC1/INT1/RD0 (io), 43 SFLT2/INT0/OCFLTA/RA9 (io), 44 PGD/EMUD/SDO1/RF8 (io)

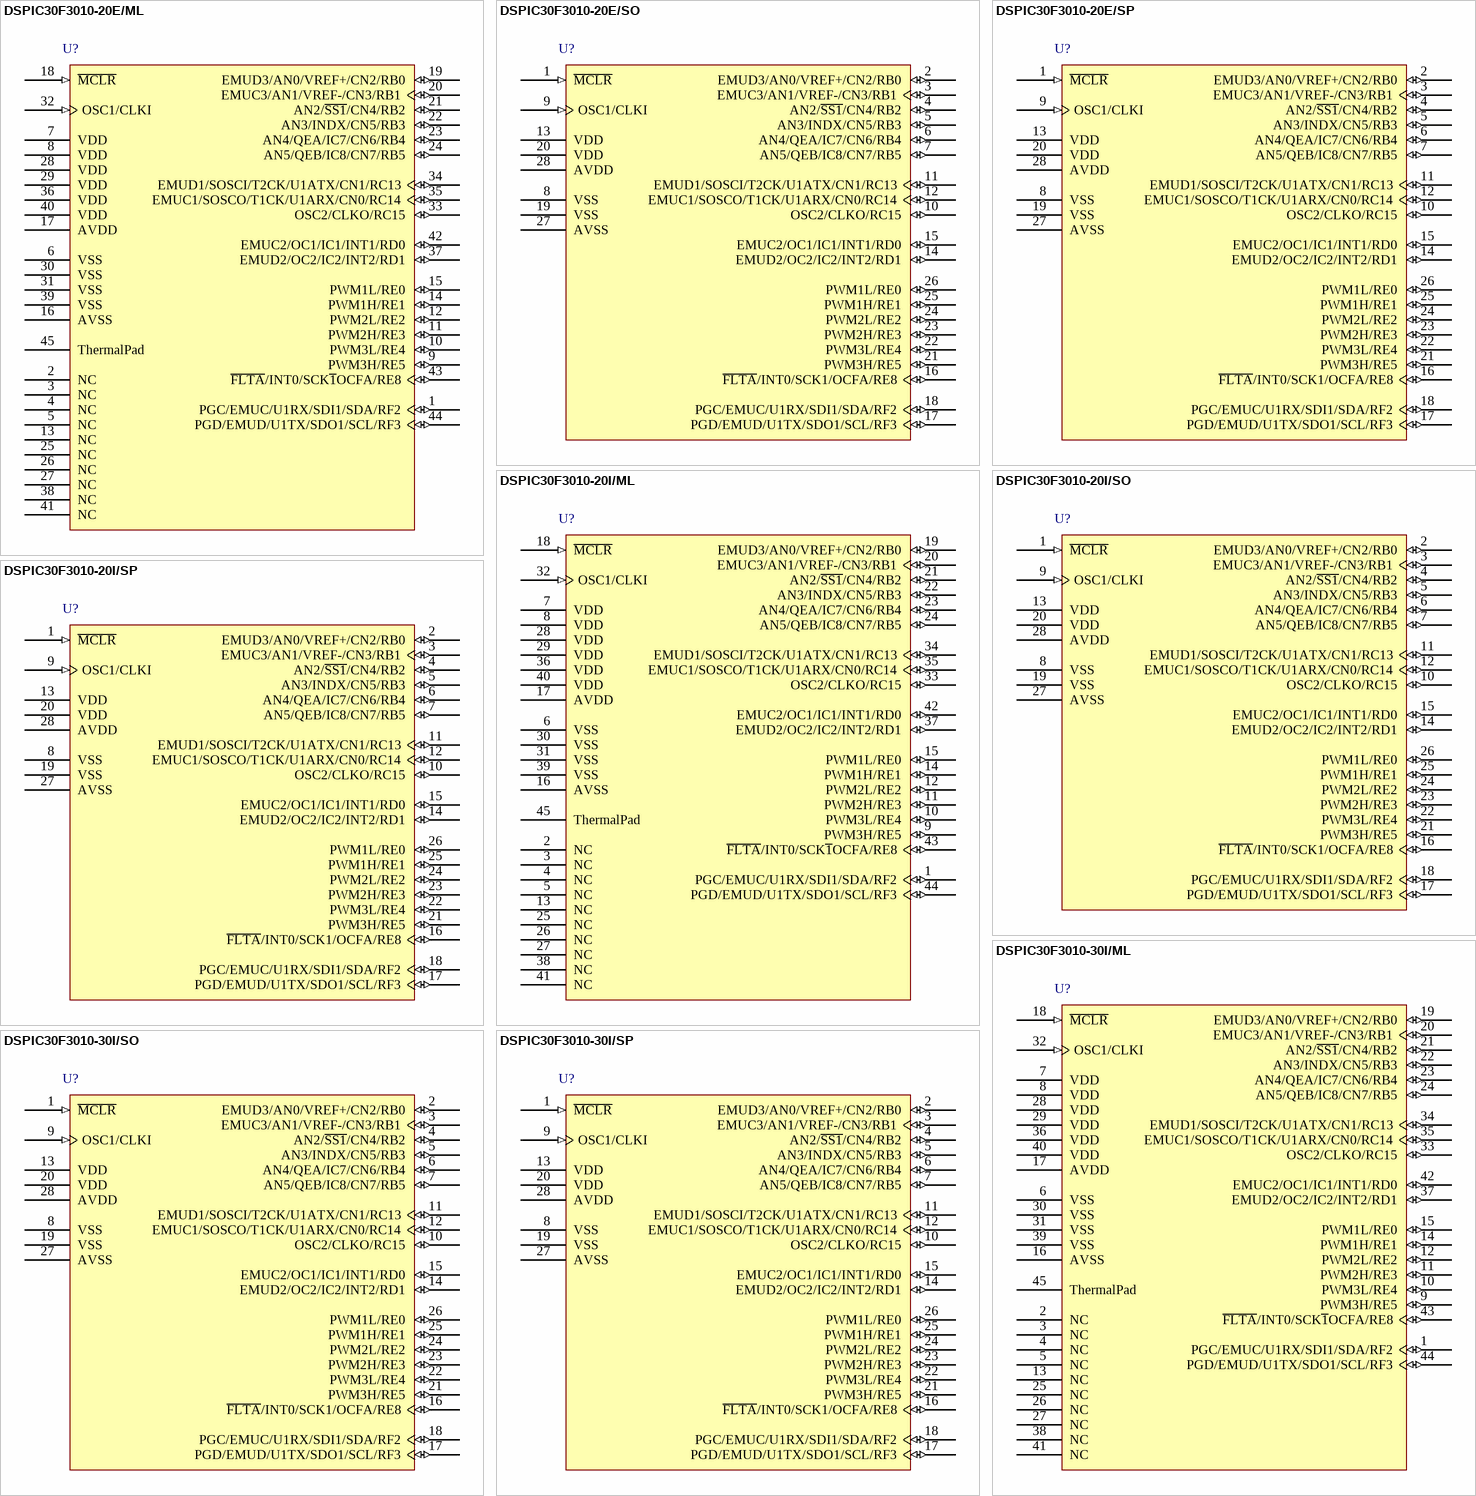
[diagram p9: symbols DSPIC30F3010-20E/ML to DSPIC30F3010-30I/SP]

## DSPIC30F3010-20E/ML
designator U?
High-Performance 16-bit Digital Signal Controller, 24 KB Flash, 1 KB SRAM, 1 KB EEPROM, 44-Pin QFN, Extended High Temperature; Manufacturer: Microchip; PartNumber: DSPIC30F3010-20E/ML; DatasheetVersion: revE, Apr-2008; PackageVersion: revBB, Aug-2009; PackageReference: QFN-ML44; PackageDescription: 44-Lead Plastic Quad Flat, No Lead Package (ML) - 8x8 mm Body [QFN]; Supplier 1: Digi-Key; Supplier Part Number 1: DSPIC30F3010-20E/ML-ND; Supplier 2: Mouser; Supplier Part Number 2: 579-DS30F301020EML; Mounting Technology: Surface Mount; Code_JEDEC: MO-220; Code_IPC: QFN65P800X800-44V2; ComponentLink1Description: Manufacturer URL; ComponentLink1URL: http://www.microchip.com/; ComponentLink2Description: Datasheet; ComponentLink2URL: http://ww1.microchip.com/downloads/en/DeviceDoc/70141e.pdf; ComponentLink3Description: Package Specification; ComponentLink3URL: http://www.microchip.com/stellent/groups/techpub_sg/documents/packagingspec/en012702.pdf
footprint QFN-ML44_N (QFN, 44-Leads, Body 8x8mm, Pitch 0.65mm, Thermal Pad 6.8x6.8mm, IPC Medium Density)
footprint QFN-ML44_L (QFN, 44-Leads, Body 8x8mm, Pitch 0.65mm, Thermal Pad 6.8x6.8mm, IPC High Density)
footprint QFN-ML44_M (QFN, 44-Leads, Body 8x8mm, Pitch 0.65mm, Thermal Pad 6.8x6.8mm, IPC Low Density)
pins: 1 PGC/EMUC/U1RX/SDI1/SDA/RF2 (io), 2 NC, 3 NC, 4 NC, 5 NC, 6 VSS (power), 7 VDD (power), 8 VDD (power), 9 PWM3H/RE5 (io), 10 PWM3L/RE4 (io), 11 PWM2H/RE3 (io), 12 PWM2L/RE2 (io), 13 NC, 14 PWM1H/RE1 (io), 15 PWM1L/RE0 (io), 16 AVSS (power), 17 AVDD (power), 18 ~{MCLR} (in), 19 EMUD3/AN0/VREF+/CN2/RB0 (io), 20 EMUC3/AN1/VREF-/CN3/RB1 (io), 21 AN2/~{SS1}/CN4/RB2 (io), 22 AN3/INDX/CN5/RB3 (io), 23 AN4/QEA/IC7/CN6/RB4 (io), 24 AN5/QEB/IC8/CN7/RB5 (io), 25 NC, 26 NC, 27 NC, 28 VDD (power), 29 VDD (power), 30 VSS (power), 31 VSS (power), 32 OSC1/CLKI (in), 33 OSC2/CLKO/RC15 (io), 34 EMUD1/SOSCI/T2CK/U1ATX/CN1/RC13 (io), 35 EMUC1/SOSCO/T1CK/U1ARX/CN0/RC14 (io), 36 VDD (power), 37 EMUD2/OC2/IC2/INT2/RD1 (io), 38 NC, 39 VSS (power), 40 VDD (power), 41 NC, 42 EMUC2/OC1/IC1/INT1/RD0 (io), 43 ~{FLTA}/INT0/SCK~{1}OCFA/RE8 (io), 44 PGD/EMUD/U1TX/SDO1/SCL/RF3 (io), 45 ThermalPad